# Altium integrated library Generalplus Devices.IntLib: 35 symbols (part 1 of 2)
Pins are listed as number, name and electrical type; pins without a type are passive.

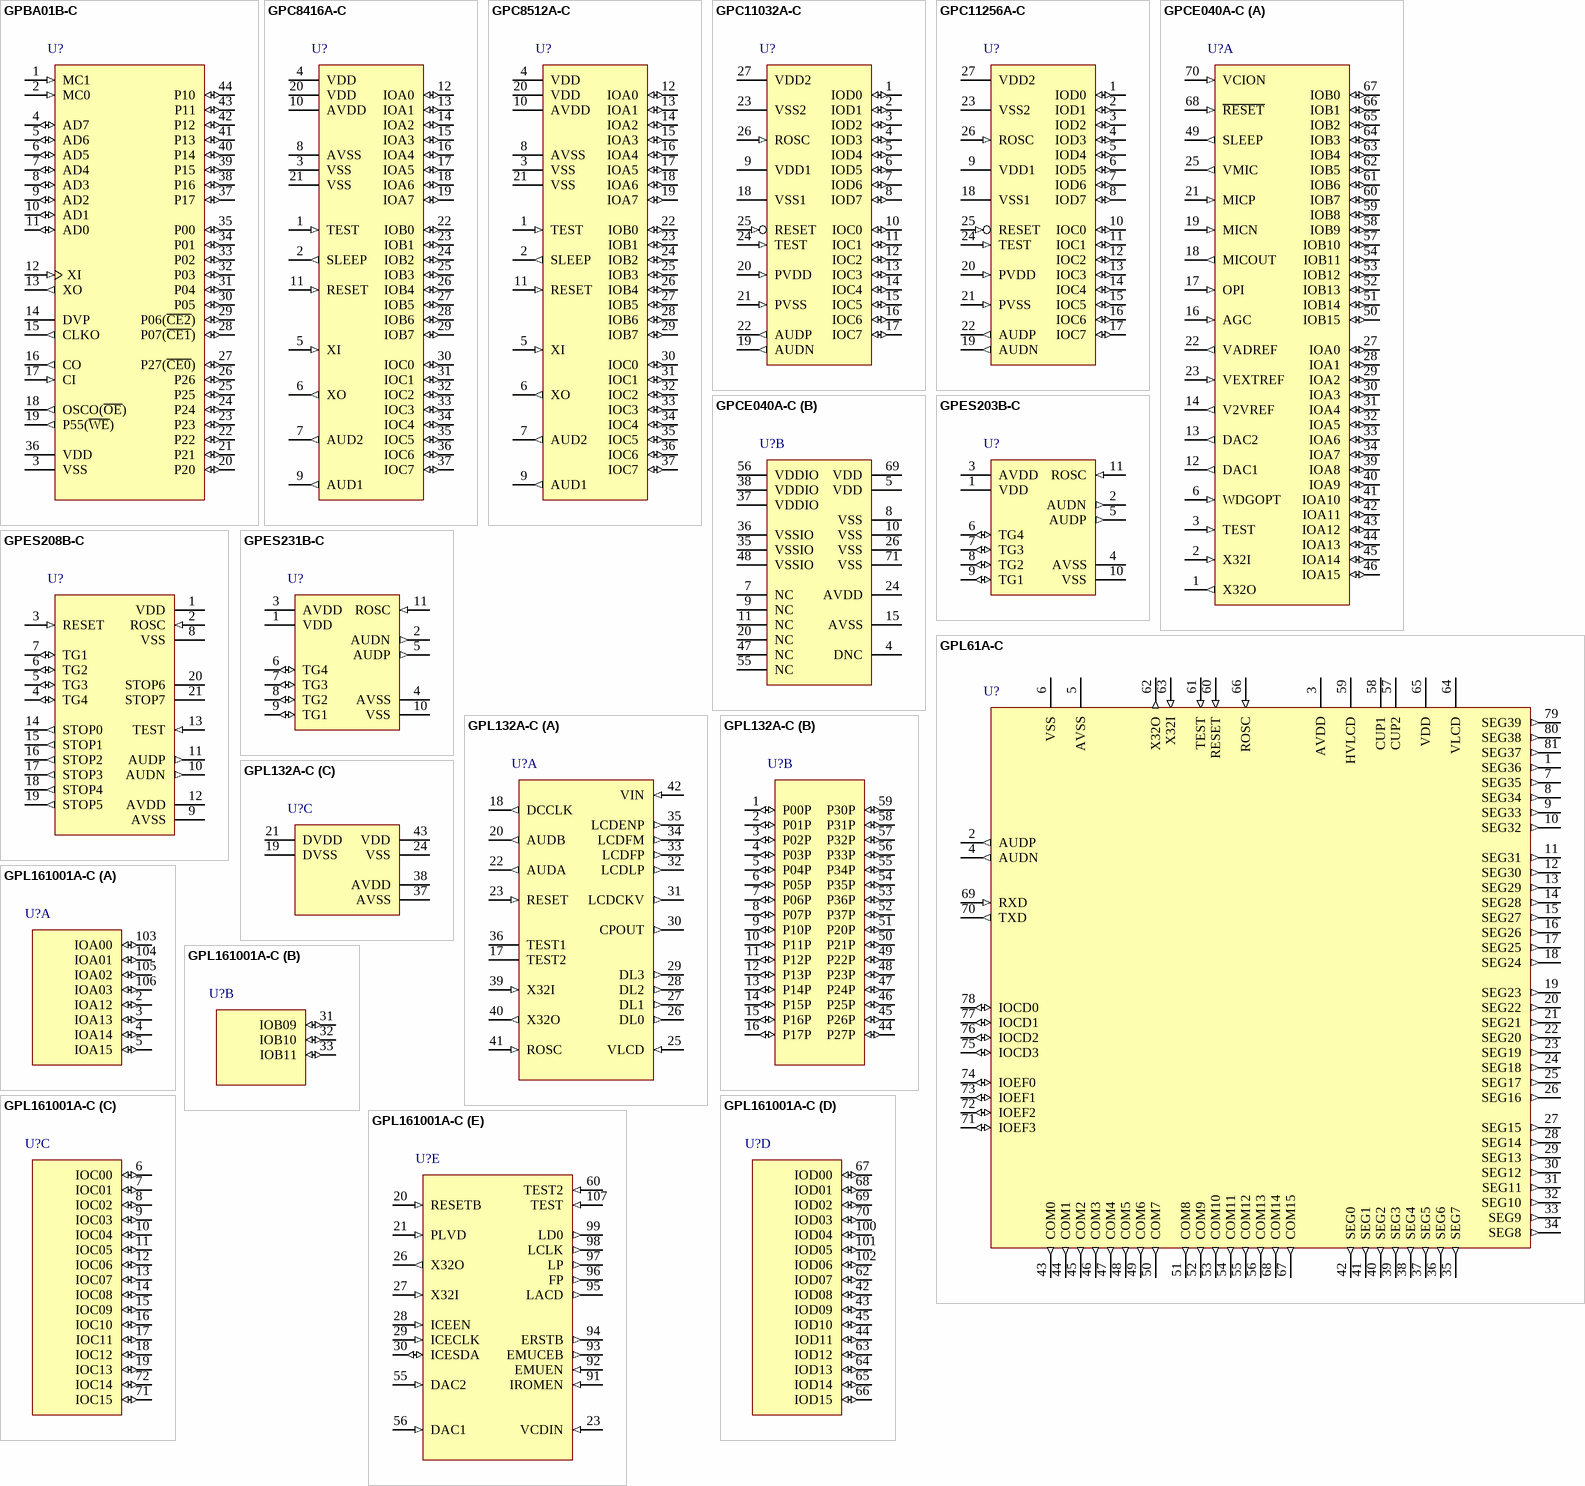
[diagram p0: symbols GPBA01B-C to GPL161001A-C]

## GPBA01B-C
designator U?
8-bit Bus Extender, Chip Form; PackageForm: Supplied as a Die.; Published: 30-Mar-2007; DatasheetVersion: ver1.0, Jun-2006; PackageReference: Chip_Form; Publisher: Altium Limited; ComponentLink1Description: Manufacturer Link; ComponentLink1URL: http://www.generalplus.com/; ComponentLink2Description: Datasheet; ComponentLink2URL: http://www.generalplus.com/products/others/datasheet/GPBA01BV10_ds.pdf
pins: 1 MC1 (in) "Input to indicated AD bus status.", 2 MC0 (in) "Input to indicated AD bus status.", 3 VSS (power) "Ground reference.", 4 AD7 (io) "Multiplexing Address/Data bus (AD BUS).", 5 AD6 (io) "Multiplexing Address/Data bus (AD BUS).", 6 AD5 (io) "Multiplexing Address/Data bus (AD BUS).", 7 AD4 (io) "Multiplexing Address/Data bus (AD BUS).", 8 AD3 (io) "Multiplexing Address/Data bus (AD BUS).", 9 AD2 (io) "Multiplexing Address/Data bus (AD BUS).", 10 AD1 (io) "Multiplexing Address/Data bus (AD BUS).", 11 AD0 (io) "Multiplexing Address/Data bus (AD BUS).", 12 XI (in) "1.84 MHz crystal input (20p capacitor required).", 13 XO (out) "1.84 MHz crystal output (20p capacitor required).", 14 DVP "Test mode, leave open.", 15 CLKO (out) "Clock divider output.", 16 CO (out) "Cascade out for daisy chain.", 17 CI (in) "Cascade in for daisy chain.", 18 OSCO(~{OE}) (out) "External memories output-enable signal.", 19 P55(~{WE}) (out) "External memories write-enable signal.", 20 P20 (io) "Memory offset address A8.", 21 P21 (io) "Memory offset address A9.", 22 P22 (io) "Memory offset address A10.", 23 P23 (io) "Memory offset address A11.", 24 P24 (io) "Memory offset address A12.", 25 P25 (io) "Memory offset address A13.", 26 P26 (io) "Memory offset address A14.", 27 P27(~{CE0}) (io) "Memory-0 chip-enable pin.", 28 P07(~{CE1}) (io) "Memory-1 chip-enable pin.", 29 P06(~{CE2}) (io) "Memory bank Address B6. Memory-2 chip-enable pin.", 30 P05 (io) "Memory bank Address B5.", 31 P04 (io) "Memory bank Address B4.", 32 P03 (io) "Memory bank Address B3.", 33 P02 (io) "Memory bank Address B2.", 34 P01 (io) "Memory bank Address B1.", 35 P00 (io) "Memory bank Address B0.", 36 VDD (power) "Positive supply.", 37 P17 (io) "Memory offset address A7.", 38 P16 (io) "Memory offset address A6.", 39 P15 (io) "Memory offset address A5.", 40 P14 (io) "Memory offset address A4.", 41 P13 (io) "Memory offset address A3.", 42 P12 (io) "Memory offset address A2.", 43 P11 (io) "Memory offset address A1.", 44 P10 (io) "Memory offset address A0."

## GPC8416A-C
designator U?
8-Channel Sound Controller with 416KB ROM, 512Byte SRAM, one 12-bit Timer/Counter, Chip Form; PackageForm: Supplied as a Die.; Published: 30-Mar-2007; DatasheetVersion: ver1.0, Nov-2005; PackageReference: Chip_Form; Publisher: Altium Limited; ComponentLink1Description: Manufacturer Link; ComponentLink1URL: http://www.generalplus.com/; ComponentLink2Description: Datasheet; ComponentLink2URL: http://www.generalplus.com/products/speechandmusic/datasheet/GPC8416AV10_ds.pdf
pins: 1 TEST (in) "Test Mode", 2 SLEEP (out) "Sleep mode (active high)", 3 VSS (power) "Ground reference for logic and I/O pins.", 4 VDD (power) "Positive supply for logic and I/O pins.", 5 XI (in) "Oscillator Crystal input.", 6 XO (out) "Oscillator Crystal output.", 7 AUD2 (out) "Audio DAC2 output.", 8 AVSS (power) "Ground reference for analog circuit, including DAC & comparator.", 9 AUD1 (out) "Audio DAC1 output.", 10 AVDD (power) "Positive supply for analog circuit, including DAC & comparator.", 11 RESET (in) "Reset", 12 IOA0 (io) "Port A", 13 IOA1 (io) "Port A", 14 IOA2 (io) "Port A", 15 IOA3 (io) "Port A", 16 IOA4 (io) "Port A", 17 IOA5 (io) "Port A", 18 IOA6 (io) "Port A", 19 IOA7 (io) "Port A", 20 VDD (power) "Positive supply for logic and I/O pins.", 21 VSS (power) "Ground reference for logic and I/O pins.", 22 IOB0 (io) "I/O Port B and 32768 crystal XI.", 23 IOB1 (io) "I/O Port B and 32768 crystal XO.", 24 IOB2 (io) "I/O Port B and comparator (-) input.", 25 IOB3 (io) "I/O Port B and comparator (+) input.", 26 IOB4 (io) "I/O Port B and comparator output.", 27 IOB5 (io) "I/O Port B and IR carrier frequency output.", 28 IOB6 (io) "I/O Port B and external interrupt input and EXT feedback output.", 29 IOB7 (io) "I/O Port B and EXT feedback input.", 30 IOC0 (io) "Port C", 31 IOC1 (io) "Port C", 32 IOC2 (io) "Port C", 33 IOC3 (io) "Port C", 34 IOC4 (io) "Port C", 35 IOC5 (io) "Port C", 36 IOC6 (io) "Port C", 37 IOC7 (io) "Port C"

## GPC8512A-C
designator U?
8-Channel Sound Controller with 512KB ROM, 512Byte SRAM, one 12-bit Timer/Counter, Chip Form; PackageForm: Supplied as a Die.; Published: 30-Mar-2007; DatasheetVersion: ver1.0, Nov-2005; PackageReference: Chip_Form; Publisher: Altium Limited; ComponentLink1Description: Manufacturer Link; ComponentLink1URL: http://www.generalplus.com/; ComponentLink2Description: Datasheet; ComponentLink2URL: http://www.generalplus.com/products/speechandmusic/datasheet/GPC8512AV10_ds.pdf
pins: 1 TEST (in) "Test Mode", 2 SLEEP (out) "Sleep mode (active high)", 3 VSS (power) "Ground reference for logic and I/O pins.", 4 VDD (power) "Positive supply for logic and I/O pins.", 5 XI (in) "Oscillator Crystal input.", 6 XO (out) "Oscillator Crystal output.", 7 AUD2 (out) "Audio DAC2 output.", 8 AVSS (power) "Ground reference for analog circuit, including DAC & comparator.", 9 AUD1 (out) "Audio DAC1 output.", 10 AVDD (power) "Positive supply for analog circuit, including DAC & comparator.", 11 RESET (in) "Reset", 12 IOA0 (io) "Port A", 13 IOA1 (io) "Port A", 14 IOA2 (io) "Port A", 15 IOA3 (io) "Port A", 16 IOA4 (io) "Port A", 17 IOA5 (io) "Port A", 18 IOA6 (io) "Port A", 19 IOA7 (io) "Port A", 20 VDD (power) "Positive supply for logic and I/O pins.", 21 VSS (power) "Ground reference for logic and I/O pins.", 22 IOB0 (io) "I/O Port B and 32768 crystal XI.", 23 IOB1 (io) "I/O Port B and 32768 crystal XO.", 24 IOB2 (io) "I/O Port B and comparator (-) input.", 25 IOB3 (io) "I/O Port B and comparator (+) input.", 26 IOB4 (io) "I/O Port B and comparator output.", 27 IOB5 (io) "I/O Port B and IR carrier frequency output.", 28 IOB6 (io) "I/O Port B and external interrupt input and EXT feedback output.", 29 IOB7 (io) "I/O Port B and EXT feedback input.", 30 IOC0 (io) "Port C", 31 IOC1 (io) "Port C", 32 IOC2 (io) "Port C", 33 IOC3 (io) "Port C", 34 IOC4 (io) "Port C", 35 IOC5 (io) "Port C", 36 IOC6 (io) "Port C", 37 IOC7 (io) "Port C"

## GPC11032A-C
designator U?
8-bit Sound Controller with 32KB ROM, 128Byte SRAM, two 8-bit Timer/Counters, Chip Form; PackageForm: Supplied as a Die.; Published: 30-Mar-2007; DatasheetVersion: ver1.1, Feb-2006; PackageReference: Chip_Form; Publisher: Altium Limited; ComponentLink1Description: Manufacturer Link; ComponentLink1URL: http://www.generalplus.com/; ComponentLink2Description: Datasheet; ComponentLink2URL: http://www.generalplus.com/products/speechandmusic/datasheet/GPC11032AV11_ds.pdf
pins: 1 IOD0 (io) "Port D", 2 IOD1 (io) "Port D", 3 IOD2 (io) "Port D", 4 IOD3 (io) "Port D", 5 IOD4 (io) "Port D", 6 IOD5 (io) "Port D", 7 IOD6 (io) "Port D", 8 IOD7 (io) "Port D", 9 VDD1 (power) "Digital Power", 10 IOC0 (io) "Port C", 11 IOC1 (io) "Port C", 12 IOC2 (io) "Port C", 13 IOC3 (io) "Port C", 14 IOC4 (io) "Port C", 15 IOC5 (io) "Port C", 16 IOC6 (io) "Port C", 17 IOC7 (io) "Port C", 18 VSS1 (power) "Digital Ground", 19 AUDN (out) "Audio Output 2", 20 PVDD (in) "PWM Power", 21 PVSS (in) "PWM Ground", 22 AUDP (out) "Audio Output 1", 23 VSS2 (power) "Digital Ground", 24 TEST (in) "Test Mode", 25 RESET (in) "Reset", 26 ROSC (in) "ROSC Resistor", 27 VDD2 (power) "Digital Power"

## GPC11256A-C
designator U?
8-bit Sound Controller with 256KB ROM, 128Byte SRAM, two 8-bit Timer/Counters, Chip Form; PackageForm: Supplied as a Die.; Published: 30-Mar-2007; DatasheetVersion: ver1.1, Feb-2006; PackageReference: Chip_Form; Publisher: Altium Limited; ComponentLink1Description: Manufacturer Link; ComponentLink1URL: http://www.generalplus.com/; ComponentLink2Description: Datasheet; ComponentLink2URL: http://www.generalplus.com/products/speechandmusic/datasheet/GPC11256AV11_ds.pdf
pins: 1 IOD0 (io) "Port D", 2 IOD1 (io) "Port D", 3 IOD2 (io) "Port D", 4 IOD3 (io) "Port D", 5 IOD4 (io) "Port D", 6 IOD5 (io) "Port D", 7 IOD6 (io) "Port D", 8 IOD7 (io) "Port D", 9 VDD1 (power) "Digital Power", 10 IOC0 (io) "Port C", 11 IOC1 (io) "Port C", 12 IOC2 (io) "Port C", 13 IOC3 (io) "Port C", 14 IOC4 (io) "Port C", 15 IOC5 (io) "Port C", 16 IOC6 (io) "Port C", 17 IOC7 (io) "Port C", 18 VSS1 (power) "Digital Ground", 19 AUDN (out) "Audio Output 2", 20 PVDD (in) "PWM Power", 21 PVSS (in) "PWM Ground", 22 AUDP (out) "Audio Output 1", 23 VSS2 (power) "Digital Ground", 24 TEST (in) "Test Mode", 25 RESET (in) "Reset", 26 ROSC (in) "ROSC Resistor", 27 VDD2 (power) "Digital Power"

## GPCE040A-C
designator U?
16-bit Micro-Controller with 48KB ROM, 4KB SRAM, two 16-bit Timer/Counters, Chip Form; PackageForm: Supplied as a Die.; Published: 30-Mar-2007; DatasheetVersion: ver1.1, Jul-2006; PackageReference: Chip_Form; Publisher: Altium Limited; ComponentLink1Description: Manufacturer Link; ComponentLink1URL: http://www.generalplus.com/; ComponentLink2Description: Datasheet; ComponentLink2URL: http://www.generalplus.com/products/speechandmusic/datasheet/GPCE040AV11_ds.pdf
part A pins: 1 X32O (out), 2 X32I (in), 3 TEST (in), 6 WDGOPT (in), 12 DAC1 (out), 13 DAC2 (out), 14 V2VREF (out), 16 AGC (in), 17 OPI (in), 18 MICOUT (out), 19 MICN (in), 21 MICP (in), 22 VADREF (out), 23 VEXTREF (in), 25 VMIC (out), 27 IOA0 (io), 28 IOA1 (io), 29 IOA2 (io), 30 IOA3 (io), 31 IOA4 (io), 32 IOA5 (io), 33 IOA6 (io), 34 IOA7 (io), 39 IOA8 (io), 40 IOA9 (io), 41 IOA10 (io), 42 IOA11 (io), 43 IOA12 (io), 44 IOA13 (io), 45 IOA14 (io), 46 IOA15 (io), 49 SLEEP (out), 50 IOB15 (io), 51 IOB14 (io), 52 IOB13 (io), 53 IOB12 (io), 54 IOB11 (io), 57 IOB10 (io), 58 IOB9 (io), 59 IOB8 (io), 60 IOB7 (io), 61 IOB6 (io), 62 IOB5 (io), 63 IOB4 (io), 64 IOB3 (io), 65 IOB2 (io), 66 IOB1 (io), 67 IOB0 (io), 68 ~{RESET} (in), 70 VCION (in)
part B pins: 4 DNC, 5 VDD (power), 7 NC, 8 VSS (power), 9 NC, 10 VSS (power), 11 NC, 15 AVSS (power), 20 NC, 24 AVDD (power), 26 VSS (power), 35 VSSIO (power), 36 VSSIO (power), 37 VDDIO (power), 38 VDDIO (power), 47 NC, 48 VSSIO (power), 55 NC, 56 VDDIO (power), 69 VDD (power), 71 VSS (power)

## GPES203B-C
designator U?
8-bit Easy-to-Use, 1 Channel, Soundplus II Speech Synthesizer with 12KB ROM, Chip Form; PackageForm: Supplied as a Die.; Published: 30-Mar-2007; DatasheetVersion: ver1.0, Jan-2006; PackageReference: Chip_Form; Publisher: Altium Limited; ComponentLink1Description: Manufacturer Link; ComponentLink1URL: http://www.generalplus.com/; ComponentLink2Description: Datasheet; ComponentLink2URL: http://www.generalplus.com/products/speechandmusic/datasheet/GPES203BV10_ds.pdf
pins: 1 VDD (power) "Positive supply for logic and I/O pins.", 2 AUDN (out) "PWM output for speaker.", 3 AVDD (power) "Positive supply for PWM.", 4 AVSS (power) "Ground reference for PWM.", 5 AUDP (out) "PWM output for speaker.", 6 TG4 (io) "Trigger input / Output signal / LED driver.", 7 TG3 (io) "Trigger input / Output signal / LED driver.", 8 TG2 (io) "Trigger input / Output signal.", 9 TG1 (io) "Trigger input / Output signal.", 10 VSS (power) "Ground reference for logic and I/O pins.", 11 ROSC (in) "R Oscillator input."

## GPES208B-C
designator U?
8-bit Easy-to-Use, 1 Channel, Soundplus II Speech Synthesizer with 28KB ROM, Chip Form; PackageForm: Supplied as a Die.; Published: 30-Mar-2007; DatasheetVersion: ver1.0, May-2005; PackageReference: Chip_Form; Publisher: Altium Limited; ComponentLink1Description: Manufacturer Link; ComponentLink1URL: http://www.generalplus.com/; ComponentLink2Description: Datasheet; ComponentLink2URL: http://www.generalplus.com/products/speechandmusic/datasheet/GPES208BV10_ds.pdf
pins: 1 VDD (power) "Digital circuit power supply.", 2 ROSC (in) "Oscillator frequency control.", 3 RESET (in) "RESET input.", 4 TG4 (io) "Trigger input.", 5 TG3 (io) "Trigger input.", 6 TG2 (io) "Trigger input.", 7 TG1 (io) "Trigger input.", 8 VSS (power) "Digital circuit power supply.", 9 AVSS (power) "PWM power supply.", 10 AUDN (out) "PWM output for speaker.", 11 AUDP (out) "PWM output for speaker.", 12 AVDD (power) "PWM power supply.", 13 TEST (in) "TEST pin.", 14 STOP0 (out) "Output signal.", 15 STOP1 (out) "Output signal.", 16 STOP2 (out) "Output signal.", 17 STOP3 (out) "Output signal.", 18 STOP4 (out) "Output signal.", 19 STOP5 (out) "Output signal.", 20 STOP6 (oc) "Open drain output / LED drive pin.", 21 STOP7 (oc) "Open drain output / LED drive pin."

## GPES231B-C
designator U?
8-bit Easy-to-Use, 1 Channel, Soundplus II Speech Synthesizer with 96KB ROM, Chip Form; PackageForm: Supplied as a Die.; Published: 30-Mar-2007; DatasheetVersion: ver1.0, Jun-2006; PackageReference: Chip_Form; Publisher: Altium Limited; ComponentLink1Description: Manufacturer Link; ComponentLink1URL: http://www.generalplus.com/; ComponentLink2Description: Datasheet; ComponentLink2URL: http://www.generalplus.com/products/speechandmusic/datasheet/GPES231BV10_ds.pdf
pins: 1 VDD (power) "Positive supply for logic and I/O pins.", 2 AUDN (out) "PWM output for speaker.", 3 AVDD (power) "Positive supply for PWM.", 4 AVSS (power) "Ground reference for PWM.", 5 AUDP (out) "PWM output for speaker.", 6 TG4 (io) "Trigger input / Output signal / LED driver.", 7 TG3 (io) "Trigger input / Output signal / LED driver.", 8 TG2 (io) "Trigger input / Output signal.", 9 TG1 (io) "Trigger input / Output signal.", 10 VSS (power) "Ground reference for logic and I/O pins.", 11 ROSC (in) "R Oscillator input."

## GPL61A-C
designator U?
8-bit LCD Controller with Driver, 3MHz CPU, 80KB ROM, 496Bytes SRAM, Chip Form; PackageForm: Supplied as a Die.; Published: 30-Mar-2007; DatasheetVersion: ver1.1, Dec-2006; PackageReference: Chip_Form; Publisher: Altium Limited; ComponentLink1Description: Manufacturer Link; ComponentLink1URL: http://www.generalplus.com/; ComponentLink2Description: Datasheet; ComponentLink2URL: http://www.generalplus.com/products/lcdcontroller/datasheet/GPL61AV11_ds.pdf
pins: 1 SEG36 (out), 2 AUDP (out), 3 AVDD (power), 4 AUDN (out), 5 AVSS (power), 6 VSS (power), 7 SEG35 (out), 8 SEG34 (out), 9 SEG33 (out), 10 SEG32 (out), 11 SEG31 (out), 12 SEG30 (out), 13 SEG29 (out), 14 SEG28 (out), 15 SEG27 (out), 16 SEG26 (out), 17 SEG25 (out), 18 SEG24 (out), 19 SEG23 (out), 20 SEG22 (out), 21 SEG21 (out), 22 SEG20 (out), 23 SEG19 (out), 24 SEG18 (out), 25 SEG17 (out), 26 SEG16 (out), 27 SEG15 (out), 28 SEG14 (out), 29 SEG13 (out), 30 SEG12 (out), 31 SEG11 (out), 32 SEG10 (out), 33 SEG9 (out), 34 SEG8 (out), 35 SEG7 (out), 36 SEG6 (out), 37 SEG5 (out), 38 SEG4 (out), 39 SEG3 (out), 40 SEG2 (out), 41 SEG1 (out), 42 SEG0 (out), 43 COM0 (out), 44 COM1 (out), 45 COM2 (out), 46 COM3 (out), 47 COM4 (out), 48 COM5 (out), 49 COM6 (out), 50 COM7 (out), 51 COM8 (out), 52 COM9 (out), 53 COM10 (out), 54 COM11 (out), 55 COM12 (out), 56 COM13 (out), 57 CUP2 (power), 58 CUP1 (power), 59 HVLCD (power), 60 RESET (in), 61 TEST (in), 62 X32O (out), 63 X32I (in), 64 VLCD (power), 65 VDD (power), 66 ROSC (in), 67 COM15 (out), 68 COM14 (out), 69 RXD (in), 70 TXD (out), 71 IOEF3 (io), 72 IOEF2 (io), 73 IOEF1 (io), 74 IOEF0 (io), 75 IOCD3 (io), 76 IOCD2 (io), 77 IOCD1 (io), 78 IOCD0 (io), 79 SEG39 (out), 80 SEG38 (out), 81 SEG37 (out)

## GPL132A-C
designator U?
8-bit LCD Controller, 6MHz CPU, 512KB ROM, 4K RAM, Chip Form; PackageForm: Supplied as a Die.; Published: 30-Mar-2007; DatasheetVersion: ver1.0, Mar-2005; PackageReference: Chip_Form; Publisher: Altium Limited; ComponentLink1Description: Manufacturer Link; ComponentLink1URL: http://www.generalplus.com/; ComponentLink2Description: Datasheet; ComponentLink2URL: http://www.generalplus.com/products/lcdcontroller/datasheet/GPL132AV10_spec.pdf
part A pins: 17 TEST2, 18 DCCLK (out), 20 AUDB (out), 22 AUDA (out), 23 RESET (in), 25 VLCD (in), 26 DL0 (out), 27 DL1 (out), 28 DL2 (out), 29 DL3 (out), 30 CPOUT (out), 31 LCDCKV (out), 32 LCDLP (out), 33 LCDFP (out), 34 LCDFM (out), 35 LCDENP (out), 36 TEST1, 39 X32I (in), 40 X32O (out), 41 ROSC (in), 42 VIN (in)
part B pins: 1 P00P (io), 2 P01P (io), 3 P02P (io), 4 P03P (io), 5 P04P (io), 6 P05P (io), 7 P06P (io), 8 P07P (io), 9 P10P (io), 10 P11P (io), 11 P12P (io), 12 P13P (io), 13 P14P (io), 14 P15P (io), 15 P16P (io), 16 P17P (io), 44 P27P (io), 45 P26P (io), 46 P25P (io), 47 P24P (io), 48 P23P (io), 49 P22P (io), 50 P21P (io), 51 P20P (io), 52 P37P (io), 53 P36P (io), 54 P35P (io), 55 P34P (io), 56 P33P (io), 57 P32P (io), 58 P31P (io), 59 P30P (io)
part C pins: 19 DVSS (power), 21 DVDD (power), 24 VSS (power), 37 AVSS (power), 38 AVDD (power), 43 VDD (power)

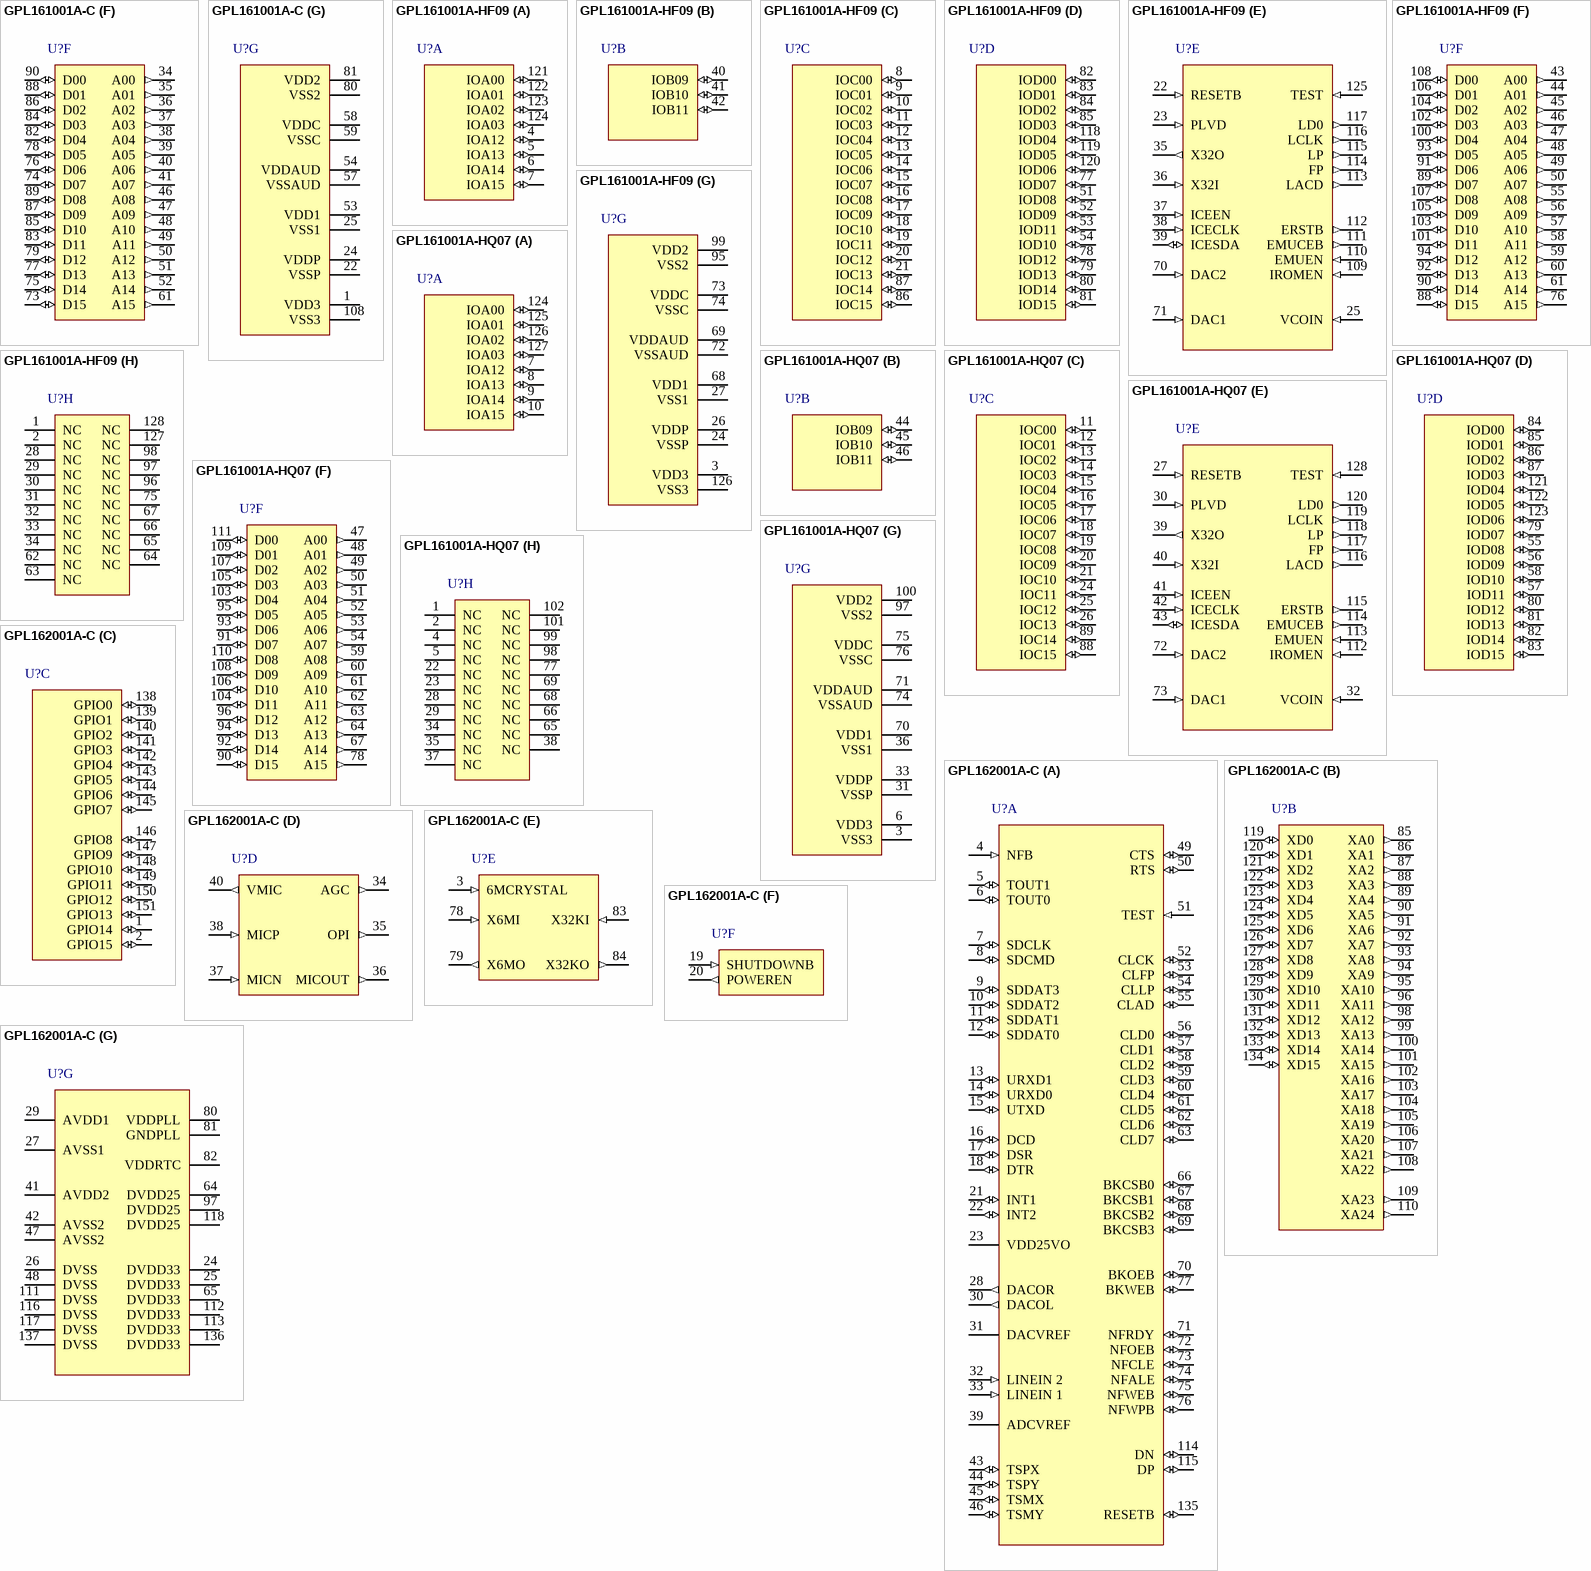
[diagram p1: symbols GPL161001A-C to GPL162001A-C]

## GPL161001A-C
designator U?
16-bit LCD Controller, 51.6MHz CPU, Chip Form; PackageForm: Supplied as a Die.; Published: 30-Mar-2007; DatasheetVersion: ver1.1, Nov-2006; PackageReference: Chip_Form; Publisher: Altium Limited; ComponentLink1Description: Manufacturer Link; ComponentLink1URL: http://www.generalplus.com/; ComponentLink2Description: Datasheet; ComponentLink2URL: http://www.generalplus.com/products/lcdcontroller/datasheet/GPL161001AV11_ds.pdf
part A pins: 2 IOA12 (io), 3 IOA13 (io), 4 IOA14 (io), 5 IOA15 (io), 103 IOA00 (io), 104 IOA01 (io), 105 IOA02 (io), 106 IOA03 (io)
part B pins: 31 IOB09 (io), 32 IOB10 (io), 33 IOB11 (io)
part C pins: 6 IOC00 (io), 7 IOC01 (io), 8 IOC02 (io), 9 IOC03 (io), 10 IOC04 (io), 11 IOC05 (io), 12 IOC06 (io), 13 IOC07 (io), 14 IOC08 (io), 15 IOC09 (io), 16 IOC10 (io), 17 IOC11 (io), 18 IOC12 (io), 19 IOC13 (io), 71 IOC15 (io), 72 IOC14 (io)
part D pins: 42 IOD08 (io), 43 IOD09 (io), 44 IOD11 (io), 45 IOD10 (io), 62 IOD07 (io), 63 IOD12 (io), 64 IOD13 (io), 65 IOD14 (io), 66 IOD15 (io), 67 IOD00 (io), 68 IOD01 (io), 69 IOD02 (io), 70 IOD03 (io), 100 IOD04 (io), 101 IOD05 (io), 102 IOD06 (io)
part E pins: 20 RESETB (in), 21 PLVD (in), 23 VCDIN (in) "VCOIN", 26 X32O (out), 27 X32I (in), 28 ICEEN (in), 29 ICECLK (in), 30 ICESDA (io), 55 DAC2 (in), 56 DAC1 (in), 60 TEST2 (in), 91 IROMEN (in), 92 EMUEN (in), 93 EMUCEB (out), 94 ERSTB (out), 95 LACD (out), 96 FP (out), 97 LP (out), 98 LCLK (out), 99 LD0 (out), 107 TEST (in)
part F pins: 34 A00 (out), 35 A01 (out), 36 A02 (out), 37 A03 (out), 38 A04 (out), 39 A05 (out), 40 A06 (out), 41 A07 (out), 46 A08 (out), 47 A09 (out), 48 A10 (out), 49 A11 (out), 50 A12 (out), 51 A13 (out), 52 A14 (out), 61 A15 (out), 73 D15 (io), 74 D07 (io), 75 D14 (io), 76 D06 (io), 77 D13 (io), 78 D05 (io), 79 D12 (io), 82 D04 (io), 83 D11 (io), 84 D03 (io), 85 D10 (io), 86 D02 (io), 87 D09 (io), 88 D01 (io), 89 D08 (io), 90 D00 (io)
part G pins: 1 VDD3 (power), 22 VSSP (power), 24 VDDP (power), 25 VSS1 (power), 53 VDD1 (power), 54 VDDAUD (power), 57 VSSAUD (power), 58 VDDC (power), 59 VSSC (power), 80 VSS2 (power), 81 VDD2 (power), 108 VSS3 (power)

## GPL161001A-HF09
designator U?
16-bit LCD Controller, 51.6MHz CPU, 128-Pin TQFP; Published: 30-Mar-2007; DatasheetVersion: ver1.1, Nov-2006; PackageVersion: Nov-2006; PackageReference: TQFP128; Publisher: Altium Limited; PackageDescription: 128-Pin Thin Quad Flat Pack; ComponentLink1Description: Manufacturer Link; ComponentLink1URL: http://www.generalplus.com/; ComponentLink2Description: Datasheet; ComponentLink2URL: http://www.generalplus.com/products/lcdcontroller/datasheet/GPL161001AV11_ds.pdf
footprint TQFP128_N (Thin QFP, 128-Leads, Body 14x14mm, Pitch 0.4mm, IPC Medium Density)
footprint TQFP128_L (Thin QFP, 128-Leads, Body 14x14mm, Pitch 0.4mm, IPC High Density)
footprint TQFP128_M (Thin QFP, 128-Leads, Body 14x14mm, Pitch 0.4mm, IPC Low Density)
part A pins: 4 IOA12 (io), 5 IOA13 (io), 6 IOA14 (io), 7 IOA15 (io), 121 IOA00 (io), 122 IOA01 (io), 123 IOA02 (io), 124 IOA03 (io)
part B pins: 40 IOB09 (io), 41 IOB10 (io), 42 IOB11 (io)
part C pins: 8 IOC00 (io), 9 IOC01 (io), 10 IOC02 (io), 11 IOC03 (io), 12 IOC04 (io), 13 IOC05 (io), 14 IOC06 (io), 15 IOC07 (io), 16 IOC08 (io), 17 IOC09 (io), 18 IOC10 (io), 19 IOC11 (io), 20 IOC12 (io), 21 IOC13 (io), 86 IOC15 (io), 87 IOC14 (io)
part D pins: 51 IOD08 (io), 52 IOD09 (io), 53 IOD11 (io), 54 IOD10 (io), 77 IOD07 (io), 78 IOD12 (io), 79 IOD13 (io), 80 IOD14 (io), 81 IOD15 (io), 82 IOD00 (io), 83 IOD01 (io), 84 IOD02 (io), 85 IOD03 (io), 118 IOD04 (io), 119 IOD05 (io), 120 IOD06 (io)
part E pins: 22 RESETB (in), 23 PLVD (in), 25 VCOIN (in), 35 X32O (out), 36 X32I (in), 37 ICEEN (in), 38 ICECLK (in), 39 ICESDA (io), 70 DAC2 (in), 71 DAC1 (in), 109 IROMEN (in), 110 EMUEN (in), 111 EMUCEB (out), 112 ERSTB (out), 113 LACD (out), 114 FP (out), 115 LP (out), 116 LCLK (out), 117 LD0 (out), 125 TEST (in)
part F pins: 43 A00 (out), 44 A01 (out), 45 A02 (out), 46 A03 (out), 47 A04 (out), 48 A05 (out), 49 A06 (out), 50 A07 (out), 55 A08 (out), 56 A09 (out), 57 A10 (out), 58 A11 (out), 59 A12 (out), 60 A13 (out), 61 A14 (out), 76 A15 (out), 88 D15 (io), 89 D07 (io), 90 D14 (io), 91 D06 (io), 92 D13 (io), 93 D05 (io), 94 D12 (io), 100 D04 (io), 101 D11 (io), 102 D03 (io), 103 D10 (io), 104 D02 (io), 105 D09 (io), 106 D01 (io), 107 D08 (io), 108 D00 (io)
part G pins: 3 VDD3 (power), 24 VSSP (power), 26 VDDP (power), 27 VSS1 (power), 68 VDD1 (power), 69 VDDAUD (power), 72 VSSAUD (power), 73 VDDC (power), 74 VSSC (power), 95 VSS2 (power), 99 VDD2 (power), 126 VSS3 (power)
part H pins: 1 NC, 2 NC, 28 NC, 29 NC, 30 NC, 31 NC, 32 NC, 33 NC, 34 NC, 62 NC, 63 NC, 64 NC, 65 NC, 66 NC, 67 NC, 75 NC, 96 NC, 97 NC, 98 NC, 127 NC, 128 NC

## GPL161001A-HQ07
designator U?
16-bit LCD Controller, 51.6MHz CPU, 128-Pin QFP; Published: 30-Mar-2007; DatasheetVersion: ver1.1, Nov-2006; PackageVersion: Nov-2006; PackageReference: QFP128; Publisher: Altium Limited; PackageDescription: 128-Pin Shrink Quad Flat Pack Rectangular 0.5 mm Pitch; Code_IPC: SQFP50P1720X2320-128; ComponentLink1Description: Manufacturer Link; ComponentLink1URL: http://www.generalplus.com/; ComponentLink2Description: Datasheet; ComponentLink2URL: http://www.generalplus.com/products/lcdcontroller/datasheet/GPL161001AV11_ds.pdf
footprint QFP128_N (Shrink QFP, 128-Leads, Body 20x14 mm, Pitch 0.5mm, IPC Medium Density)
footprint QFP128_L (Shrink QFP, 128-Leads, Body 20x14 mm, Pitch 0.5mm, IPC High Density)
footprint QFP128_M (Shrink QFP, 128-Leads, Body 20x14 mm, Pitch 0.5mm, IPC Low Density)
part A pins: 7 IOA12 (io), 8 IOA13 (io), 9 IOA14 (io), 10 IOA15 (io), 124 IOA00 (io), 125 IOA01 (io), 126 IOA02 (io), 127 IOA03 (io)
part B pins: 44 IOB09 (io), 45 IOB10 (io), 46 IOB11 (io)
part C pins: 11 IOC00 (io), 12 IOC01 (io), 13 IOC02 (io), 14 IOC03 (io), 15 IOC04 (io), 16 IOC05 (io), 17 IOC06 (io), 18 IOC07 (io), 19 IOC08 (io), 20 IOC09 (io), 21 IOC10 (io), 24 IOC11 (io), 25 IOC12 (io), 26 IOC13 (io), 88 IOC15 (io), 89 IOC14 (io)
part D pins: 55 IOD08 (io), 56 IOD09 (io), 57 IOD11 (io), 58 IOD10 (io), 79 IOD07 (io), 80 IOD12 (io), 81 IOD13 (io), 82 IOD14 (io), 83 IOD15 (io), 84 IOD00 (io), 85 IOD01 (io), 86 IOD02 (io), 87 IOD03 (io), 121 IOD04 (io), 122 IOD05 (io), 123 IOD06 (io)
part E pins: 27 RESETB (in), 30 PLVD (in), 32 VCOIN (in), 39 X32O (out), 40 X32I (in), 41 ICEEN (in), 42 ICECLK (in), 43 ICESDA (io), 72 DAC2 (in), 73 DAC1 (in), 112 IROMEN (in), 113 EMUEN (in), 114 EMUCEB (out), 115 ERSTB (out), 116 LACD (out), 117 FP (out), 118 LP (out), 119 LCLK (out), 120 LD0 (out), 128 TEST (in)
part F pins: 47 A00 (out), 48 A01 (out), 49 A02 (out), 50 A03 (out), 51 A04 (out), 52 A05 (out), 53 A06 (out), 54 A07 (out), 59 A08 (out), 60 A09 (out), 61 A10 (out), 62 A11 (out), 63 A12 (out), 64 A13 (out), 67 A14 (out), 78 A15 (out), 90 D15 (io), 91 D07 (io), 92 D14 (io), 93 D06 (io), 94 D13 (io), 95 D05 (io), 96 D12 (io), 103 D04 (io), 104 D11 (io), 105 D03 (io), 106 D10 (io), 107 D02 (io), 108 D09 (io), 109 D01 (io), 110 D08 (io), 111 D00 (io)
part G pins: 3 VSS3 (power), 6 VDD3 (power), 31 VSSP (power), 33 VDDP (power), 36 VSS1 (power), 70 VDD1 (power), 71 VDDAUD (power), 74 VSSAUD (power), 75 VDDC (power), 76 VSSC (power), 97 VSS2 (power), 100 VDD2 (power)
part H pins: 1 NC, 2 NC, 4 NC, 5 NC, 22 NC, 23 NC, 28 NC, 29 NC, 34 NC, 35 NC, 37 NC, 38 NC, 65 NC, 66 NC, 68 NC, 69 NC, 77 NC, 98 NC, 99 NC, 101 NC, 102 NC

## GPL162001A-C
designator U?
16-bit LCD Controller, 48MHz CPU, Chip Form; PackageForm: Supplied as a Die.; Published: 30-Mar-2007; DatasheetVersion: ver1.6, Feb-2007; PackageReference: Chip_Form; Publisher: Altium Limited; ComponentLink1Description: Manufacturer Link; ComponentLink1URL: http://www.generalplus.com/; ComponentLink2Description: Datasheet; ComponentLink2URL: http://www.generalplus.com/products/lcdcontroller/datasheet/GPL162001AV16_ds.pdf
part A pins: 4 NFB (in), 5 TOUT1 (io), 6 TOUT0 (io), 7 SDCLK (io), 8 SDCMD (io), 9 SDDAT3 (io), 10 SDDAT2 (io), 11 SDDAT1 (io), 12 SDDAT0 (io), 13 URXD1 (io), 14 URXD0 (io), 15 UTXD (io), 16 DCD (io), 17 DSR (io), 18 DTR (io), 21 INT1 (io), 22 INT2 (io), 23 VDD25VO (power), 28 DACOR (out), 30 DACOL (out), 31 DACVREF (power), 32 LINEIN 2 (in), 33 LINEIN 1 (in), 39 ADCVREF, 43 TSPX (io), 44 TSPY (io), 45 TSMX (io), 46 TSMY (io), 49 CTS (io), 50 RTS (io), 51 TEST (in), 52 CLCK (io), 53 CLFP (io), 54 CLLP (io), 55 CLAD (io), 56 CLD0 (io), 57 CLD1 (io), 58 CLD2 (io), 59 CLD3 (io), 60 CLD4 (io), 61 CLD5 (io), 62 CLD6 (io), 63 CLD7 (io), 66 BKCSB0 (io), 67 BKCSB1 (io), 68 BKCSB2 (io), 69 BKCSB3 (io), 70 BKOEB (io), 71 NFRDY (io), 72 NFOEB (io), 73 NFCLE (io), 74 NFALE (io), 75 NFWEB (io), 76 NFWPB (io), 77 BKWEB (io), 114 DN (io), 115 DP (io), 135 RESETB (io)
part B pins: 85 XA0 (out), 86 XA1 (out), 87 XA2 (out), 88 XA3 (out), 89 XA4 (out), 90 XA5 (out), 91 XA6 (out), 92 XA7 (out), 93 XA8 (out), 94 XA9 (out), 95 XA10 (out), 96 XA11 (out), 98 XA12 (out), 99 XA13 (out), 100 XA14 (out), 101 XA15 (out), 102 XA16 (out), 103 XA17 (out), 104 XA18 (out), 105 XA19 (out), 106 XA20 (out), 107 XA21 (out), 108 XA22 (out), 109 XA23 (out), 110 XA24 (out), 119 XD0 (io), 120 XD1 (io), 121 XD2 (io), 122 XD3 (io), 123 XD4 (io), 124 XD5 (io), 125 XD6 (io), 126 XD7 (io), 127 XD8 (io), 128 XD9 (io), 129 XD10 (io), 130 XD11 (io), 131 XD12 (io), 132 XD13 (io), 133 XD14 (io), 134 XD15 (io)
part C pins: 1 GPIO14 (io), 2 GPIO15 (io), 138 GPIO0 (io), 139 GPIO1 (io), 140 GPIO2 (io), 141 GPIO3 (io), 142 GPIO4 (io), 143 GPIO5 (io), 144 GPIO6 (io), 145 GPIO7 (io), 146 GPIO8 (io), 147 GPIO9 (io), 148 GPIO10 (io), 149 GPIO11 (io), 150 GPIO12 (io), 151 GPIO13 (io)
part D pins: 34 AGC (out), 35 OPI (out), 36 MICOUT (out), 37 MICN (in), 38 MICP (in), 40 VMIC (out)
part E pins: 3 6MCRYSTAL (in), 78 X6MI (in), 79 X6MO (out), 83 X32KI (in), 84 X32KO (out)
part F pins: 19 SHUTDOWNB (in), 20 POWEREN (out)
part G pins: 24 DVDD33 (power), 25 DVDD33 (power), 26 DVSS (power), 27 AVSS1 (power), 29 AVDD1 (power), 41 AVDD2 (power), 42 AVSS2 (power), 47 AVSS2 (power), 48 DVSS (power), 64 DVDD25 (power), 65 DVDD33 (power), 80 VDDPLL (power), 81 GNDPLL (power), 82 VDDRTC (power), 97 DVDD25 (power), 111 DVSS (power), 112 DVDD33 (power), 113 DVDD33 (power), 116 DVSS (power), 117 DVSS (power), 118 DVDD25 (power), 136 DVDD33 (power), 137 DVSS (power)

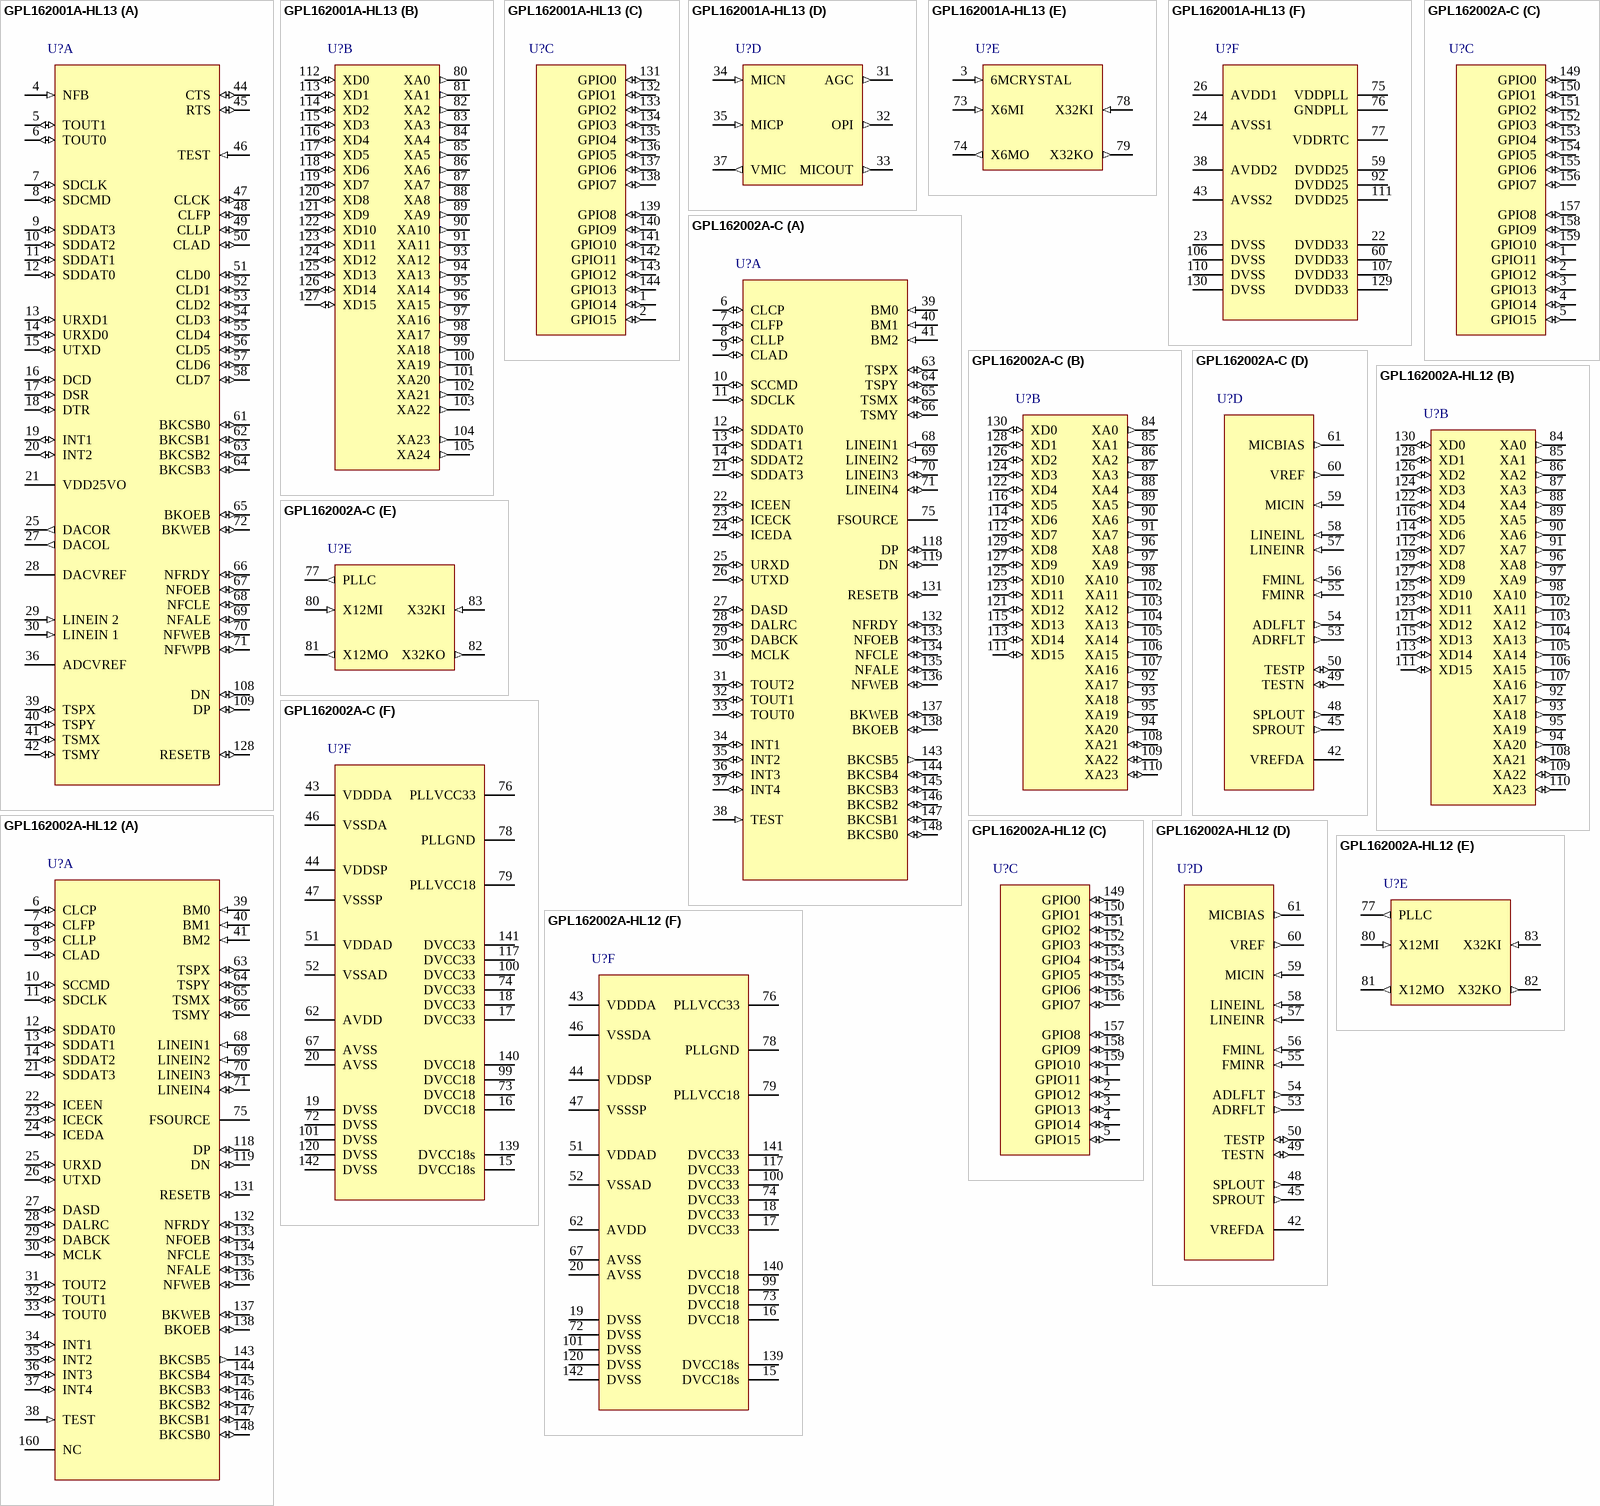
[diagram p2: symbols GPL162001A-HL13 to GPL162002A-HL12]

## GPL162001A-HL13
designator U?
16-bit LCD Controller, 48MHz CPU, 144-Pin LQFP; Published: 30-Mar-2007; DatasheetVersion: ver1.6, Feb-2007; PackageVersion: Feb-2007; PackageReference: LQFP144; Publisher: Altium Limited; PackageDescription: 144-Pin Low Profile Quad Flat Pack; ComponentLink1Description: Manufacturer Link; ComponentLink1URL: http://www.generalplus.com/; ComponentLink2Description: Datasheet; ComponentLink2URL: http://www.generalplus.com/products/lcdcontroller/datasheet/GPL162001AV16_ds.pdf
footprint LQFP144_N (Thin QFP, 144-Leads, Body 20x20mm, Pitch 0.5mm, IPC Medium Density)
footprint LQFP144_L (Thin QFP, 144-Leads, Body 20x20mm, Pitch 0.5mm, IPC High Density)
footprint LQFP144_M (Thin QFP, 144-Leads, Body 20x20mm, Pitch 0.5mm, IPC Low Density)
part A pins: 4 NFB (in), 5 TOUT1 (io), 6 TOUT0 (io), 7 SDCLK (io), 8 SDCMD (io), 9 SDDAT3 (io), 10 SDDAT2 (io), 11 SDDAT1 (io), 12 SDDAT0 (io), 13 URXD1 (io), 14 URXD0 (io), 15 UTXD (io), 16 DCD (io), 17 DSR (io), 18 DTR (io), 19 INT1 (io), 20 INT2 (io), 21 VDD25VO (power), 25 DACOR (out), 27 DACOL (out), 28 DACVREF (power), 29 LINEIN 2 (in), 30 LINEIN 1 (in), 36 ADCVREF, 39 TSPX (io), 40 TSPY (io), 41 TSMX (io), 42 TSMY (io), 44 CTS (io), 45 RTS (io), 46 TEST (in), 47 CLCK (io), 48 CLFP (io), 49 CLLP (io), 50 CLAD (io), 51 CLD0 (io), 52 CLD1 (io), 53 CLD2 (io), 54 CLD3 (io), 55 CLD4 (io), 56 CLD5 (io), 57 CLD6 (io), 58 CLD7 (io), 61 BKCSB0 (io), 62 BKCSB1 (io), 63 BKCSB2 (io), 64 BKCSB3 (io), 65 BKOEB (io), 66 NFRDY (io), 67 NFOEB (io), 68 NFCLE (io), 69 NFALE (io), 70 NFWEB (io), 71 NFWPB (io), 72 BKWEB (io), 108 DN (io), 109 DP (io), 128 RESETB (io)
part B pins: 80 XA0 (out), 81 XA1 (out), 82 XA2 (out), 83 XA3 (out), 84 XA4 (out), 85 XA5 (out), 86 XA6 (out), 87 XA7 (out), 88 XA8 (out), 89 XA9 (out), 90 XA10 (out), 91 XA11 (out), 93 XA12 (out), 94 XA13 (out), 95 XA14 (out), 96 XA15 (out), 97 XA16 (out), 98 XA17 (out), 99 XA18 (out), 100 XA19 (out), 101 XA20 (out), 102 XA21 (out), 103 XA22 (out), 104 XA23 (out), 105 XA24 (out), 112 XD0 (io), 113 XD1 (io), 114 XD2 (io), 115 XD3 (io), 116 XD4 (io), 117 XD5 (io), 118 XD6 (io), 119 XD7 (io), 120 XD8 (io), 121 XD9 (io), 122 XD10 (io), 123 XD11 (io), 124 XD12 (io), 125 XD13 (io), 126 XD14 (io), 127 XD15 (io)
part C pins: 1 GPIO14 (io), 2 GPIO15 (io), 131 GPIO0 (io), 132 GPIO1 (io), 133 GPIO2 (io), 134 GPIO3 (io), 135 GPIO4 (io), 136 GPIO5 (io), 137 GPIO6 (io), 138 GPIO7 (io), 139 GPIO8 (io), 140 GPIO9 (io), 141 GPIO10 (io), 142 GPIO11 (io), 143 GPIO12 (io), 144 GPIO13 (io)
part D pins: 31 AGC (out), 32 OPI (out), 33 MICOUT (out), 34 MICN (in), 35 MICP (in), 37 VMIC (out)
part E pins: 3 6MCRYSTAL (in), 73 X6MI (in), 74 X6MO (out), 78 X32KI (in), 79 X32KO (out)
part F pins: 22 DVDD33 (power), 23 DVSS (power), 24 AVSS1 (power), 26 AVDD1 (power), 38 AVDD2 (power), 43 AVSS2 (power), 59 DVDD25 (power), 60 DVDD33 (power), 75 VDDPLL (power), 76 GNDPLL (power), 77 VDDRTC (power), 92 DVDD25 (power), 106 DVSS (power), 107 DVDD33 (power), 110 DVSS (power), 111 DVDD25 (power), 129 DVDD33 (power), 130 DVSS (power)

## GPL162002A-C
designator U?
16-bit LCD Controller, 96MHz CPU, Chip Form; PackageForm: Supplied as a Die.; Published: 30-Mar-2007; DatasheetVersion: ver1.0, Jan-2007; PackageReference: Chip_Form; Publisher: Altium Limited; ComponentLink1Description: Manufacturer Link; ComponentLink1URL: http://www.generalplus.com/; ComponentLink2Description: Datasheet; ComponentLink2URL: http://www.generalplus.com/products/lcdcontroller/datasheet/GPL162002AV10_ds.pdf
part A pins: 6 CLCP (io), 7 CLFP (io), 8 CLLP (io), 9 CLAD (io), 10 SCCMD (io), 11 SDCLK (io), 12 SDDAT0 (io), 13 SDDAT1 (io), 14 SDDAT2 (io), 21 SDDAT3 (io), 22 ICEEN (io), 23 ICECK (io), 24 ICEDA (io), 25 URXD (io), 26 UTXD (io), 27 DASD (io), 28 DALRC (io), 29 DABCK (io), 30 MCLK (io), 31 TOUT2 (io), 32 TOUT1 (io), 33 TOUT0 (io), 34 INT1 (io), 35 INT2 (io), 36 INT3 (io), 37 INT4 (io), 38 TEST (in), 39 BM0 (in), 40 BM1 (in), 41 BM2 (in), 63 TSPX (io), 64 TSPY (io), 65 TSMX (io), 66 TSMY (io), 68 LINEIN1 (in), 69 LINEIN2 (in), 70 LINEIN3 (io), 71 LINEIN4 (io), 75 FSOURCE (power), 118 DP (io), 119 DN (io), 131 RESETB (io), 132 NFRDY (io), 133 NFOEB (io), 134 NFCLE (io), 135 NFALE (io), 136 NFWEB (io), 137 BKWEB (io), 138 BKOEB (io), 143 BKCSB5 (out), 144 BKCSB4 (io), 145 BKCSB3 (io), 146 BKCSB2 (io), 147 BKCSB1 (io), 148 BKCSB0 (io)
part B pins: 84 XA0 (out), 85 XA1 (out), 86 XA2 (out), 87 XA3 (out), 88 XA4 (out), 89 XA5 (out), 90 XA6 (out), 91 XA7 (out), 92 XA17 (out), 93 XA18 (out), 94 XA20 (out), 95 XA19 (out), 96 XA8 (out), 97 XA9 (out), 98 XA10 (out), 102 XA11 (out), 103 XA12 (out), 104 XA13 (out), 105 XA14 (out), 106 XA15 (out), 107 XA16 (out), 108 XA21 (io), 109 XA22 (io), 110 XA23 (io), 111 XD15 (io), 112 XD7 (io), 113 XD14 (io), 114 XD6 (io), 115 XD13 (io), 116 XD5 (io), 121 XD12 (io), 122 XD4 (io), 123 XD11 (io), 124 XD3 (io), 125 XD10 (io), 126 XD2 (io), 127 XD9 (io), 128 XD1 (io), 129 XD8 (io), 130 XD0 (io)
part C pins: 1 GPIO11 (io), 2 GPIO12 (io), 3 GPIO13 (io), 4 GPIO14 (io), 5 GPIO15 (io), 149 GPIO0 (io), 150 GPIO1 (io), 151 GPIO2 (io), 152 GPIO3 (io), 153 GPIO4 (io), 154 GPIO5 (io), 155 GPIO6 (io), 156 GPIO7 (io), 157 GPIO8 (io), 158 GPIO9 (io), 159 GPIO10 (io)
part D pins: 42 VREFDA (power), 45 SPROUT (out), 48 SPLOUT (out), 49 TESTN (io), 50 TESTP (io), 53 ADRFLT (out), 54 ADLFLT (out), 55 FMINR (in), 56 FMINL (in), 57 LINEINR (in), 58 LINEINL (in), 59 MICIN (in), 60 VREF (out), 61 MICBIAS (out)
part E pins: 77 PLLC (out), 80 X12MI (in), 81 X12MO (out), 82 X32KO (out), 83 X32KI (in)
part F pins: 15 DVCC18s (power), 16 DVCC18 (power), 17 DVCC33 (power), 18 DVCC33 (power), 19 DVSS (power), 20 AVSS (power), 43 VDDDA (power), 44 VDDSP (power), 46 VSSDA (power), 47 VSSSP (power), 51 VDDAD (power), 52 VSSAD (power), 62 AVDD (power), 67 AVSS (power), 72 DVSS (power), 73 DVCC18 (power), 74 DVCC33 (power), 76 PLLVCC33 (power), 78 PLLGND (power), 79 PLLVCC18 (power), 99 DVCC18 (power), 100 DVCC33 (power), 101 DVSS (power), 117 DVCC33 (power), 120 DVSS (power), 139 DVCC18s (power), 140 DVCC18 (power), 141 DVCC33 (power), 142 DVSS (power)

## GPL162002A-HL12
designator U?
16-bit LCD Controller, 96MHz CPU, 160-Pin LQFP; Published: 30-Mar-2007; DatasheetVersion: ver1.0, Jan-2007; PackageVersion: Dec-2006; PackageReference: LQFP160; Publisher: Altium Limited; PackageDescription: 160-Pin Low Profile Quad Flat Pack; ComponentLink1Description: Manufacturer Link; ComponentLink1URL: http://www.generalplus.com/; ComponentLink2Description: Datasheet; ComponentLink2URL: http://www.generalplus.com/products/lcdcontroller/datasheet/GPL162002AV10_ds.pdf
footprint LQFP160_N (Thin QFP, 160-Leads, Body 20x20mm, Pitch 0.4mm, IPC Medium Density)
footprint LQFP160_L (Thin QFP, 160-Leads, Body 20x20mm, Pitch 0.4mm, IPC High Density)
footprint LQFP160_M (Thin QFP, 160-Leads, Body 20x20mm, Pitch 0.4mm, IPC Low Density)
part A pins: 6 CLCP (io), 7 CLFP (io), 8 CLLP (io), 9 CLAD (io), 10 SCCMD (io), 11 SDCLK (io), 12 SDDAT0 (io), 13 SDDAT1 (io), 14 SDDAT2 (io), 21 SDDAT3 (io), 22 ICEEN (io), 23 ICECK (io), 24 ICEDA (io), 25 URXD (io), 26 UTXD (io), 27 DASD (io), 28 DALRC (io), 29 DABCK (io), 30 MCLK (io), 31 TOUT2 (io), 32 TOUT1 (io), 33 TOUT0 (io), 34 INT1 (io), 35 INT2 (io), 36 INT3 (io), 37 INT4 (io), 38 TEST (in), 39 BM0 (in), 40 BM1 (in), 41 BM2 (in), 63 TSPX (io), 64 TSPY (io), 65 TSMX (io), 66 TSMY (io), 68 LINEIN1 (in), 69 LINEIN2 (in), 70 LINEIN3 (io), 71 LINEIN4 (io), 75 FSOURCE (power), 118 DP (io), 119 DN (io), 131 RESETB (io), 132 NFRDY (io), 133 NFOEB (io), 134 NFCLE (io), 135 NFALE (io), 136 NFWEB (io), 137 BKWEB (io), 138 BKOEB (io), 143 BKCSB5 (out), 144 BKCSB4 (io), 145 BKCSB3 (io), 146 BKCSB2 (io), 147 BKCSB1 (io), 148 BKCSB0 (io), 160 NC
part B pins: 84 XA0 (out), 85 XA1 (out), 86 XA2 (out), 87 XA3 (out), 88 XA4 (out), 89 XA5 (out), 90 XA6 (out), 91 XA7 (out), 92 XA17 (out), 93 XA18 (out), 94 XA20 (out), 95 XA19 (out), 96 XA8 (out), 97 XA9 (out), 98 XA10 (out), 102 XA11 (out), 103 XA12 (out), 104 XA13 (out), 105 XA14 (out), 106 XA15 (out), 107 XA16 (out), 108 XA21 (io), 109 XA22 (io), 110 XA23 (io), 111 XD15 (io), 112 XD7 (io), 113 XD14 (io), 114 XD6 (io), 115 XD13 (io), 116 XD5 (io), 121 XD12 (io), 122 XD4 (io), 123 XD11 (io), 124 XD3 (io), 125 XD10 (io), 126 XD2 (io), 127 XD9 (io), 128 XD1 (io), 129 XD8 (io), 130 XD0 (io)
part C pins: 1 GPIO11 (io), 2 GPIO12 (io), 3 GPIO13 (io), 4 GPIO14 (io), 5 GPIO15 (io), 149 GPIO0 (io), 150 GPIO1 (io), 151 GPIO2 (io), 152 GPIO3 (io), 153 GPIO4 (io), 154 GPIO5 (io), 155 GPIO6 (io), 156 GPIO7 (io), 157 GPIO8 (io), 158 GPIO9 (io), 159 GPIO10 (io)
part D pins: 42 VREFDA (power), 45 SPROUT (out), 48 SPLOUT (out), 49 TESTN (io), 50 TESTP (io), 53 ADRFLT (out), 54 ADLFLT (out), 55 FMINR (in), 56 FMINL (in), 57 LINEINR (in), 58 LINEINL (in), 59 MICIN (in), 60 VREF (out), 61 MICBIAS (out)
part E pins: 77 PLLC (out), 80 X12MI (in), 81 X12MO (out), 82 X32KO (out), 83 X32KI (in)
part F pins: 15 DVCC18s (power), 16 DVCC18 (power), 17 DVCC33 (power), 18 DVCC33 (power), 19 DVSS (power), 20 AVSS (power), 43 VDDDA (power), 44 VDDSP (power), 46 VSSDA (power), 47 VSSSP (power), 51 VDDAD (power), 52 VSSAD (power), 62 AVDD (power), 67 AVSS (power), 72 DVSS (power), 73 DVCC18 (power), 74 DVCC33 (power), 76 PLLVCC33 (power), 78 PLLGND (power), 79 PLLVCC18 (power), 99 DVCC18 (power), 100 DVCC33 (power), 101 DVSS (power), 117 DVCC33 (power), 120 DVSS (power), 139 DVCC18s (power), 140 DVCC18 (power), 141 DVCC33 (power), 142 DVSS (power)

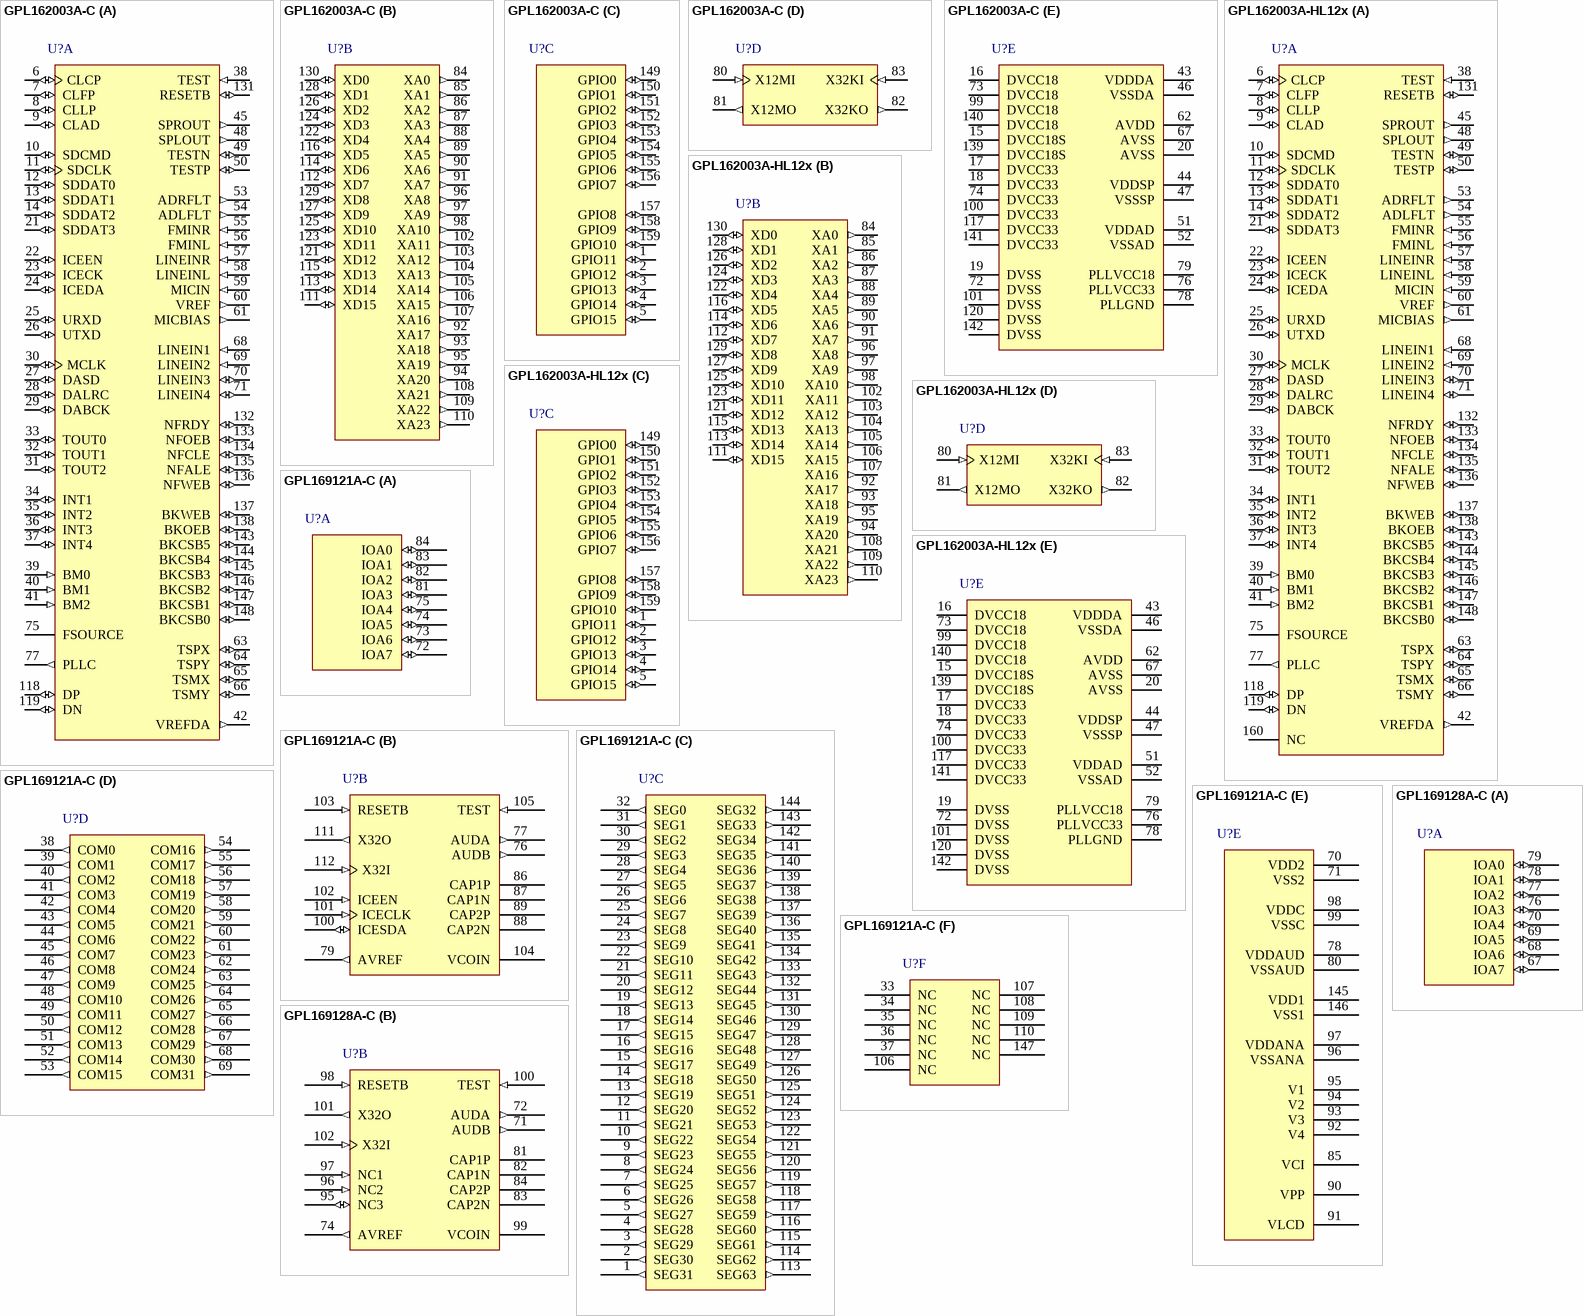
[diagram p3: symbols GPL162003A-C to GPL169128A-C]

## GPL162003A-C
designator U?
16-bit LCD Controller, 96MHz CPU, Chip Form; PackageForm: Supplied as a Die.; Published: 30-Mar-2007; DatasheetVersion: ver0.1, Dec-2006; PackageReference: Chip_Form; Publisher: Altium Limited; ComponentLink1Description: Manufacturer Link; ComponentLink1URL: http://www.generalplus.com/
part A pins: 6 CLCP (io), 7 CLFP (io), 8 CLLP (io), 9 CLAD (io), 10 SDCMD (io), 11 SDCLK (io), 12 SDDAT0 (io), 13 SDDAT1 (io), 14 SDDAT2 (io), 21 SDDAT3 (io), 22 ICEEN (io), 23 ICECK (io), 24 ICEDA (io), 25 URXD (io), 26 UTXD (io), 27 DASD (io), 28 DALRC (io), 29 DABCK (io), 30 MCLK (io), 31 TOUT2 (io), 32 TOUT1 (io), 33 TOUT0 (io), 34 INT1 (io), 35 INT2 (io), 36 INT3 (io), 37 INT4 (io), 38 TEST (in), 39 BM0 (in), 40 BM1 (in), 41 BM2 (in), 42 VREFDA (out), 45 SPROUT (out), 48 SPLOUT (out), 49 TESTN (io), 50 TESTP (io), 53 ADRFLT (out), 54 ADLFLT (out), 55 FMINR (in), 56 FMINL (in), 57 LINEINR (in), 58 LINEINL (in), 59 MICIN (in), 60 VREF (out), 61 MICBIAS (out), 63 TSPX (io), 64 TSPY (io), 65 TSMX (io), 66 TSMY (io), 68 LINEIN1 (in), 69 LINEIN2 (in), 70 LINEIN3 (io), 71 LINEIN4 (io), 75 FSOURCE (power), 77 PLLC (out), 118 DP (io), 119 DN (io), 131 RESETB (io), 132 NFRDY (io), 133 NFOEB (io), 134 NFCLE (io), 135 NFALE (io), 136 NFWEB (io), 137 BKWEB (io), 138 BKOEB (io), 143 BKCSB5 (io), 144 BKCSB4 (io), 145 BKCSB3 (io), 146 BKCSB2 (io), 147 BKCSB1 (io), 148 BKCSB0 (io)
part B pins: 84 XA0 (out), 85 XA1 (out), 86 XA2 (out), 87 XA3 (out), 88 XA4 (out), 89 XA5 (out), 90 XA6 (out), 91 XA7 (out), 92 XA17 (out), 93 XA18 (out), 94 XA20 (out), 95 XA19 (out), 96 XA8 (out), 97 XA9 (out), 98 XA10 (out), 102 XA11 (out), 103 XA12 (out), 104 XA13 (out), 105 XA14 (out), 106 XA15 (out), 107 XA16 (out), 108 XA21 (out), 109 XA22 (out), 110 XA23 (out), 111 XD15 (io), 112 XD7 (io), 113 XD14 (io), 114 XD6 (io), 115 XD13 (io), 116 XD5 (io), 121 XD12 (io), 122 XD4 (io), 123 XD11 (io), 124 XD3 (io), 125 XD10 (io), 126 XD2 (io), 127 XD9 (io), 128 XD1 (io), 129 XD8 (io), 130 XD0 (io)
part C pins: 1 GPIO11 (io), 2 GPIO12 (io), 3 GPIO13 (io), 4 GPIO14 (io), 5 GPIO15 (io), 149 GPIO0 (io), 150 GPIO1 (io), 151 GPIO2 (io), 152 GPIO3 (io), 153 GPIO4 (io), 154 GPIO5 (io), 155 GPIO6 (io), 156 GPIO7 (io), 157 GPIO8 (io), 158 GPIO9 (io), 159 GPIO10 (io)
part D pins: 80 X12MI (in), 81 X12MO (out), 82 X32KO (out), 83 X32KI (in)
part E pins: 15 DVCC18S (power), 16 DVCC18 (power), 17 DVCC33 (power), 18 DVCC33 (power), 19 DVSS (power), 20 AVSS (power), 43 VDDDA (power), 44 VDDSP (power), 46 VSSDA (power), 47 VSSSP (power), 51 VDDAD (power), 52 VSSAD (power), 62 AVDD (power), 67 AVSS (power), 72 DVSS (power), 73 DVCC18 (power), 74 DVCC33 (power), 76 PLLVCC33 (power), 78 PLLGND (power), 79 PLLVCC18 (power), 99 DVCC18 (power), 100 DVCC33 (power), 101 DVSS (power), 117 DVCC33 (power), 120 DVSS (power), 139 DVCC18S (power), 140 DVCC18 (power), 141 DVCC33 (power), 142 DVSS (power)

## GPL162003A-HL12x
designator U?
16-bit LCD Controller, 96MHz CPU, 160-Pin LQFP; Published: 30-Mar-2007; DatasheetVersion: ver0.1, Dec-2006; PackageVersion: Dec-2006; PackageReference: LQFP160; Publisher: Altium Limited; PackageDescription: 160-Pin Low Profile Quad Flat Pack; ComponentLink1Description: Manufacturer Link; ComponentLink1URL: http://www.generalplus.com/
footprint LQFP160_N (Thin QFP, 160-Leads, Body 20x20mm, Pitch 0.4mm, IPC Medium Density)
footprint LQFP160_L (Thin QFP, 160-Leads, Body 20x20mm, Pitch 0.4mm, IPC High Density)
footprint LQFP160_M (Thin QFP, 160-Leads, Body 20x20mm, Pitch 0.4mm, IPC Low Density)
part A pins: 6 CLCP (io), 7 CLFP (io), 8 CLLP (io), 9 CLAD (io), 10 SDCMD (io), 11 SDCLK (io), 12 SDDAT0 (io), 13 SDDAT1 (io), 14 SDDAT2 (io), 21 SDDAT3 (io), 22 ICEEN (io), 23 ICECK (io), 24 ICEDA (io), 25 URXD (io), 26 UTXD (io), 27 DASD (io), 28 DALRC (io), 29 DABCK (io), 30 MCLK (io), 31 TOUT2 (io), 32 TOUT1 (io), 33 TOUT0 (io), 34 INT1 (io), 35 INT2 (io), 36 INT3 (io), 37 INT4 (io), 38 TEST (in), 39 BM0 (in), 40 BM1 (in), 41 BM2 (in), 42 VREFDA (out), 45 SPROUT (out), 48 SPLOUT (out), 49 TESTN (io), 50 TESTP (io), 53 ADRFLT (out), 54 ADLFLT (out), 55 FMINR (in), 56 FMINL (in), 57 LINEINR (in), 58 LINEINL (in), 59 MICIN (in), 60 VREF (out), 61 MICBIAS (out), 63 TSPX (io), 64 TSPY (io), 65 TSMX (io), 66 TSMY (io), 68 LINEIN1 (in), 69 LINEIN2 (in), 70 LINEIN3 (io), 71 LINEIN4 (io), 75 FSOURCE (power), 77 PLLC (out), 118 DP (io), 119 DN (io), 131 RESETB (io), 132 NFRDY (io), 133 NFOEB (io), 134 NFCLE (io), 135 NFALE (io), 136 NFWEB (io), 137 BKWEB (io), 138 BKOEB (io), 143 BKCSB5 (io), 144 BKCSB4 (io), 145 BKCSB3 (io), 146 BKCSB2 (io), 147 BKCSB1 (io), 148 BKCSB0 (io), 160 NC
part B pins: 84 XA0 (out), 85 XA1 (out), 86 XA2 (out), 87 XA3 (out), 88 XA4 (out), 89 XA5 (out), 90 XA6 (out), 91 XA7 (out), 92 XA17 (out), 93 XA18 (out), 94 XA20 (out), 95 XA19 (out), 96 XA8 (out), 97 XA9 (out), 98 XA10 (out), 102 XA11 (out), 103 XA12 (out), 104 XA13 (out), 105 XA14 (out), 106 XA15 (out), 107 XA16 (out), 108 XA21 (out), 109 XA22 (out), 110 XA23 (out), 111 XD15 (io), 112 XD7 (io), 113 XD14 (io), 114 XD6 (io), 115 XD13 (io), 116 XD5 (io), 121 XD12 (io), 122 XD4 (io), 123 XD11 (io), 124 XD3 (io), 125 XD10 (io), 126 XD2 (io), 127 XD9 (io), 128 XD1 (io), 129 XD8 (io), 130 XD0 (io)
part C pins: 1 GPIO11 (io), 2 GPIO12 (io), 3 GPIO13 (io), 4 GPIO14 (io), 5 GPIO15 (io), 149 GPIO0 (io), 150 GPIO1 (io), 151 GPIO2 (io), 152 GPIO3 (io), 153 GPIO4 (io), 154 GPIO5 (io), 155 GPIO6 (io), 156 GPIO7 (io), 157 GPIO8 (io), 158 GPIO9 (io), 159 GPIO10 (io)
part D pins: 80 X12MI (in), 81 X12MO (out), 82 X32KO (out), 83 X32KI (in)
part E pins: 15 DVCC18S (power), 16 DVCC18 (power), 17 DVCC33 (power), 18 DVCC33 (power), 19 DVSS (power), 20 AVSS (power), 43 VDDDA (power), 44 VDDSP (power), 46 VSSDA (power), 47 VSSSP (power), 51 VDDAD (power), 52 VSSAD (power), 62 AVDD (power), 67 AVSS (power), 72 DVSS (power), 73 DVCC18 (power), 74 DVCC33 (power), 76 PLLVCC33 (power), 78 PLLGND (power), 79 PLLVCC18 (power), 99 DVCC18 (power), 100 DVCC33 (power), 101 DVSS (power), 117 DVCC33 (power), 120 DVSS (power), 139 DVCC18S (power), 140 DVCC18 (power), 141 DVCC33 (power), 142 DVSS (power)

## GPL169121A-C
designator U?
16-bit LCD Controller with Driver, 48MHz CPU, Chip Form; PackageForm: Supplied as a Die.; Published: 30-Mar-2007; DatasheetVersion: ver1.1, Nov-2006; PackageReference: Chip_Form; Publisher: Altium Limited; ComponentLink1Description: Manufacturer Link; ComponentLink1URL: http://www.generalplus.com/; ComponentLink2Description: Datasheet; ComponentLink2URL: http://www.generalplus.com/products/lcdcontroller/datasheet/GPL169121AV11_ds.pdf
part A pins: 72 IOA7 (io), 73 IOA6 (io), 74 IOA5 (io), 75 IOA4 (io), 81 IOA3 (io), 82 IOA2 (io), 83 IOA1 (io), 84 IOA0 (io)
part B pins: 76 AUDB (out), 77 AUDA (out), 79 AVREF (out), 86 CAP1P (power), 87 CAP1N (power), 88 CAP2N (power), 89 CAP2P (power), 100 ICESDA (io), 101 ICECLK (in), 102 ICEEN (in), 103 RESETB (in), 104 VCOIN (power), 105 TEST (in), 111 X32O (out), 112 X32I (in)
part C pins: 1 SEG31 (out), 2 SEG30 (out), 3 SEG29 (out), 4 SEG28 (out), 5 SEG27 (out), 6 SEG26 (out), 7 SEG25 (out), 8 SEG24 (out), 9 SEG23 (out), 10 SEG22 (out), 11 SEG21 (out), 12 SEG20 (out), 13 SEG19 (out), 14 SEG18 (out), 15 SEG17 (out), 16 SEG16 (out), 17 SEG15 (out), 18 SEG14 (out), 19 SEG13 (out), 20 SEG12 (out), 21 SEG11 (out), 22 SEG10 (out), 23 SEG9 (out), 24 SEG8 (out), 25 SEG7 (out), 26 SEG6 (out), 27 SEG5 (out), 28 SEG4 (out), 29 SEG3 (out), 30 SEG2 (out), 31 SEG1 (out), 32 SEG0 (out), 113 SEG63 (out), 114 SEG62 (out), 115 SEG61 (out), 116 SEG60 (out), 117 SEG59 (out), 118 SEG58 (out), 119 SEG57 (out), 120 SEG56 (out), 121 SEG55 (out), 122 SEG54 (out), 123 SEG53 (out), 124 SEG52 (out), 125 SEG51 (out), 126 SEG50 (out), 127 SEG49 (out), 128 SEG48 (out), 129 SEG47 (out), 130 SEG46 (out), 131 SEG45 (out), 132 SEG44 (out), 133 SEG43 (out), 134 SEG42 (out), 135 SEG41 (out), 136 SEG40 (out), 137 SEG39 (out), 138 SEG38 (out), 139 SEG37 (out), 140 SEG36 (out), 141 SEG35 (out), 142 SEG34 (out), 143 SEG33 (out), 144 SEG32 (out)
part D pins: 38 COM0 (out), 39 COM1 (out), 40 COM2 (out), 41 COM3 (out), 42 COM4 (out), 43 COM5 (out), 44 COM6 (out), 45 COM7 (out), 46 COM8 (out), 47 COM9 (out), 48 COM10 (out), 49 COM11 (out), 50 COM12 (out), 51 COM13 (out), 52 COM14 (out), 53 COM15 (out), 54 COM16 (out), 55 COM17 (out), 56 COM18 (out), 57 COM19 (out), 58 COM20 (out), 59 COM21 (out), 60 COM22 (out), 61 COM23 (out), 62 COM24 (out), 63 COM25 (out), 64 COM26 (out), 65 COM27 (out), 66 COM28 (out), 67 COM29 (out), 68 COM30 (out), 69 COM31 (out)
part E pins: 70 VDD2 (power), 71 VSS2 (power), 78 VDDAUD (power), 80 VSSAUD (power), 85 VCI (power), 90 VPP (power), 91 VLCD (power), 92 V4 (power), 93 V3 (power), 94 V2 (power), 95 V1 (power), 96 VSSANA (power), 97 VDDANA (power), 98 VDDC (power), 99 VSSC (power), 145 VDD1 (power), 146 VSS1 (power)
part F pins: 33 NC, 34 NC, 35 NC, 36 NC, 37 NC, 106 NC, 107 NC, 108 NC, 109 NC, 110 NC, 147 NC

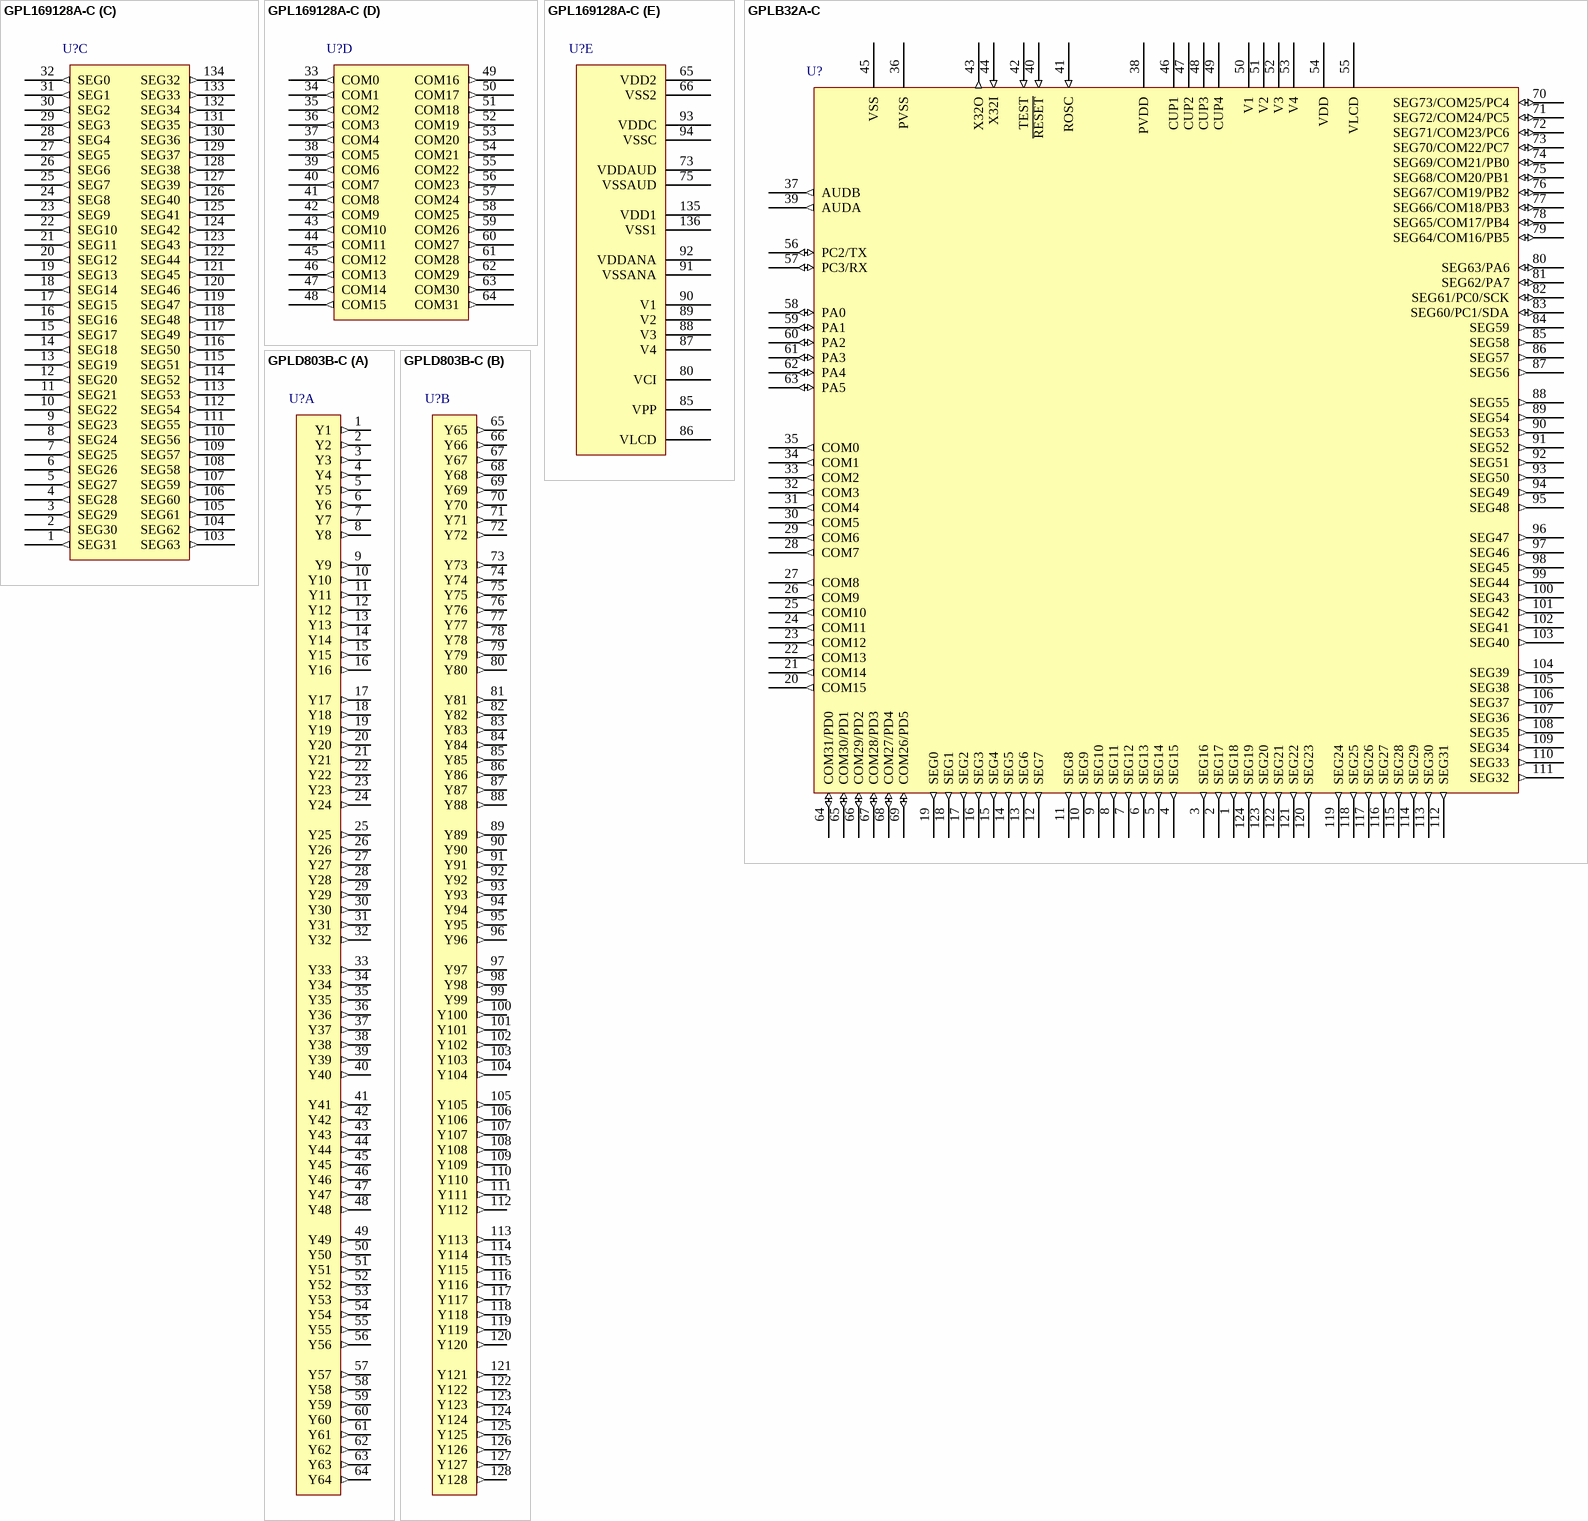
[diagram p4: symbols GPL169128A-C to GPLD803B-C]

## GPL169128A-C
designator U?
16-bit LCD Controller with Driver, 48MHz CPU, Chip Form; PackageForm: Supplied as a Die.; Published: 30-Mar-2007; DatasheetVersion: ver1.0, Nov-2006; PackageReference: Chip_Form; Publisher: Altium Limited; ComponentLink1Description: Manufacturer Link; ComponentLink1URL: http://www.generalplus.com/; ComponentLink2Description: Datasheet; ComponentLink2URL: http://www.generalplus.com/products/lcdcontroller/datasheet/GPL169128AV10_ds.pdf
part A pins: 67 IOA7 (io), 68 IOA6 (io), 69 IOA5 (io), 70 IOA4 (io), 76 IOA3 (io), 77 IOA2 (io), 78 IOA1 (io), 79 IOA0 (io)
part B pins: 71 AUDB (out), 72 AUDA (out), 74 AVREF (out), 81 CAP1P (power), 82 CAP1N (power), 83 CAP2N (power), 84 CAP2P (power), 95 NC3 (io), 96 NC2 (in), 97 NC1 (in), 98 RESETB (in), 99 VCOIN (power), 100 TEST (in), 101 X32O (out), 102 X32I (in)
part C pins: 1 SEG31 (out), 2 SEG30 (out), 3 SEG29 (out), 4 SEG28 (out), 5 SEG27 (out), 6 SEG26 (out), 7 SEG25 (out), 8 SEG24 (out), 9 SEG23 (out), 10 SEG22 (out), 11 SEG21 (out), 12 SEG20 (out), 13 SEG19 (out), 14 SEG18 (out), 15 SEG17 (out), 16 SEG16 (out), 17 SEG15 (out), 18 SEG14 (out), 19 SEG13 (out), 20 SEG12 (out), 21 SEG11 (out), 22 SEG10 (out), 23 SEG9 (out), 24 SEG8 (out), 25 SEG7 (out), 26 SEG6 (out), 27 SEG5 (out), 28 SEG4 (out), 29 SEG3 (out), 30 SEG2 (out), 31 SEG1 (out), 32 SEG0 (out), 103 SEG63 (out), 104 SEG62 (out), 105 SEG61 (out), 106 SEG60 (out), 107 SEG59 (out), 108 SEG58 (out), 109 SEG57 (out), 110 SEG56 (out), 111 SEG55 (out), 112 SEG54 (out), 113 SEG53 (out), 114 SEG52 (out), 115 SEG51 (out), 116 SEG50 (out), 117 SEG49 (out), 118 SEG48 (out), 119 SEG47 (out), 120 SEG46 (out), 121 SEG45 (out), 122 SEG44 (out), 123 SEG43 (out), 124 SEG42 (out), 125 SEG41 (out), 126 SEG40 (out), 127 SEG39 (out), 128 SEG38 (out), 129 SEG37 (out), 130 SEG36 (out), 131 SEG35 (out), 132 SEG34 (out), 133 SEG33 (out), 134 SEG32 (out)
part D pins: 33 COM0 (out), 34 COM1 (out), 35 COM2 (out), 36 COM3 (out), 37 COM4 (out), 38 COM5 (out), 39 COM6 (out), 40 COM7 (out), 41 COM8 (out), 42 COM9 (out), 43 COM10 (out), 44 COM11 (out), 45 COM12 (out), 46 COM13 (out), 47 COM14 (out), 48 COM15 (out), 49 COM16 (out), 50 COM17 (out), 51 COM18 (out), 52 COM19 (out), 53 COM20 (out), 54 COM21 (out), 55 COM22 (out), 56 COM23 (out), 57 COM24 (out), 58 COM25 (out), 59 COM26 (out), 60 COM27 (out), 61 COM28 (out), 62 COM29 (out), 63 COM30 (out), 64 COM31 (out)
part E pins: 65 VDD2 (power), 66 VSS2 (power), 73 VDDAUD (power), 75 VSSAUD (power), 80 VCI (power), 85 VPP (power), 86 VLCD (power), 87 V4 (power), 88 V3 (power), 89 V2 (power), 90 V1 (power), 91 VSSANA (power), 92 VDDANA (power), 93 VDDC (power), 94 VSSC (power), 135 VDD1 (power), 136 VSS1 (power)